# Altium integrated library Atmel Microcontroller 32-Bit ARM.IntLib: 116 symbols (part 4 of 10)
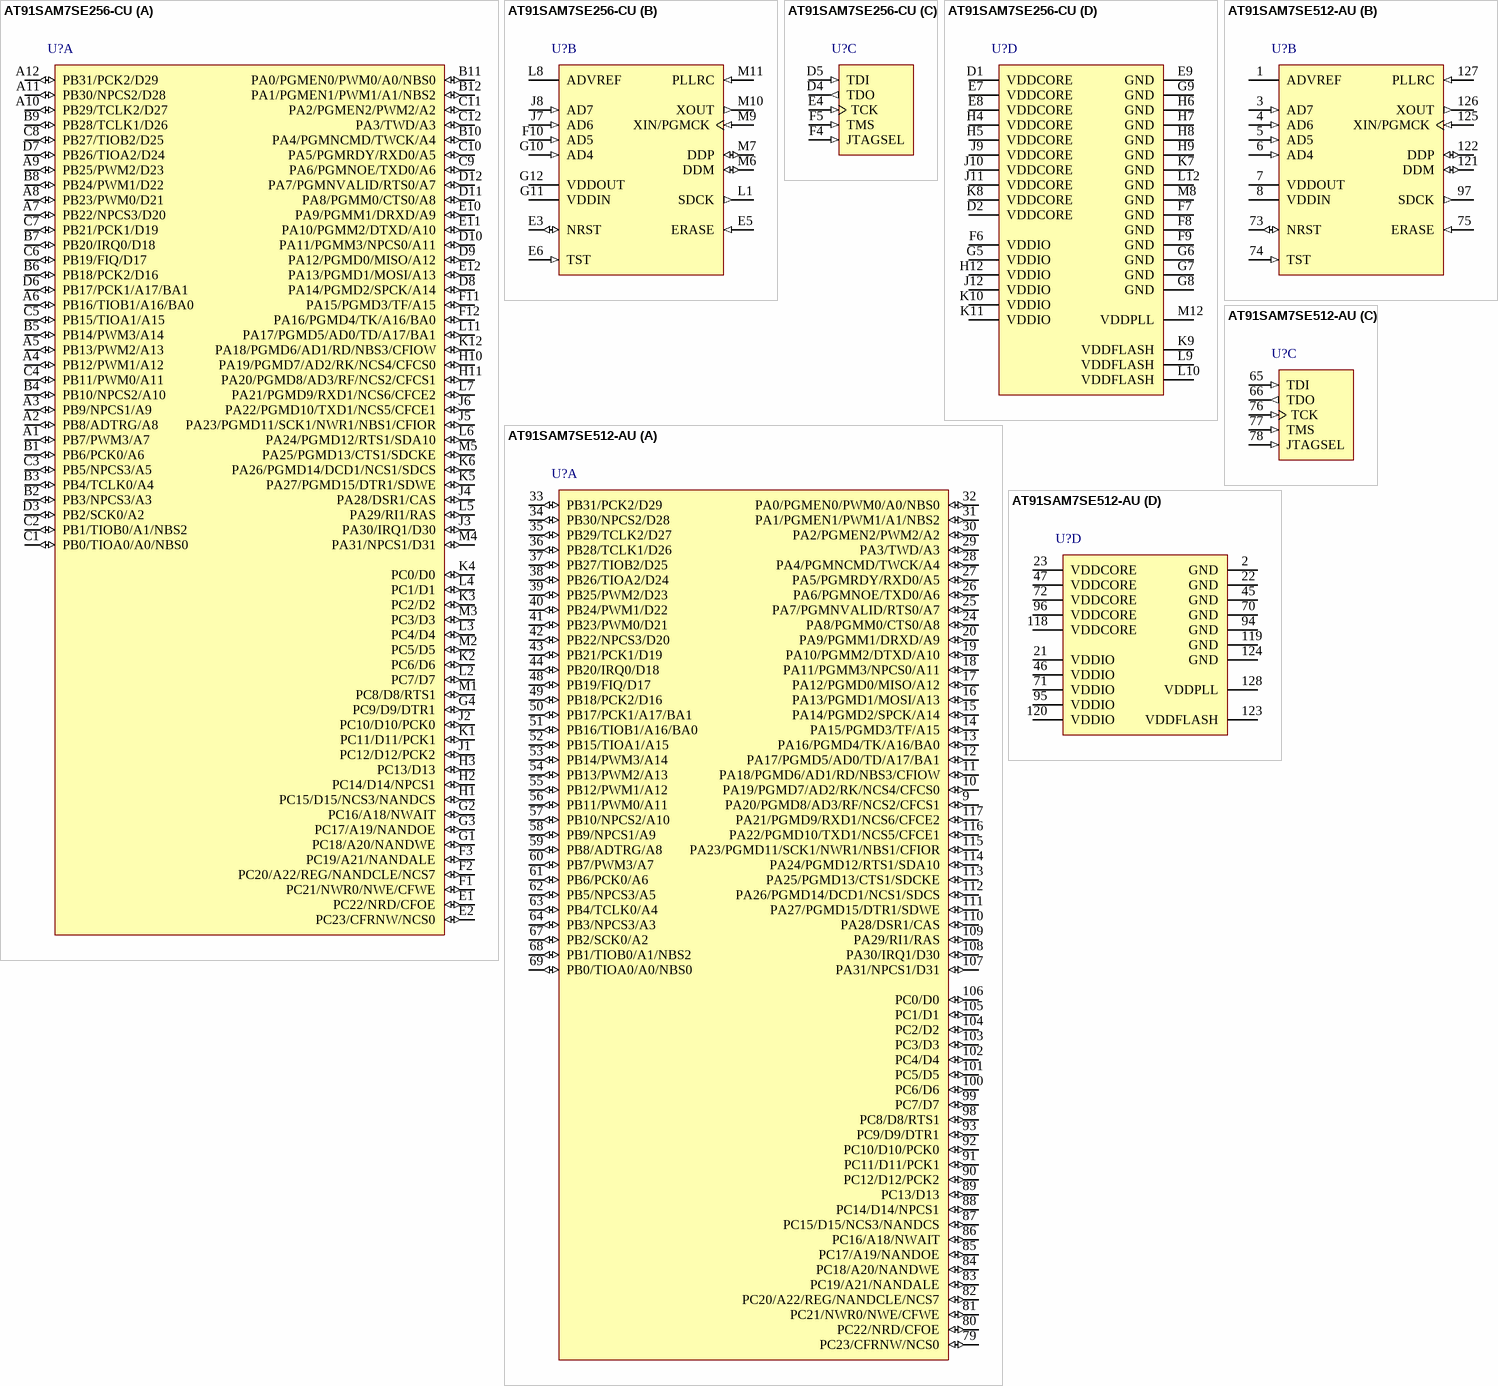
[diagram p55: symbols AT91SAM7SE256-CU to AT91SAM7SE512-AU]

## AT91SAM7SE512-AU
designator U?
AT91 ARM Thumb-based 32-bit Microcontroller, 512KB Flash, 32KB SRAM, EBI, 8-ch. 10-bit ADC, 128-pin LQFP, Industrial Grade (-40°C to 85°C), Pb-Free; Published: 20-Sep-2010; DatasheetVersion: revE, Dec-2009; PackageVersion: 2008; PackageReference: LQFP128; Publisher: Altium Limited; PackageDescription: 128-Pin Thin Quad Flat Pack Rectangular 0.5 mm Pitch; Supplier 1: Digi-Key; Supplier Part Number 1: AT91SAM7SE512-AU-ND; Supplier 2: Farnell; Supplier Part Number 2: 1455083; Supplier 3: Mouser; Supplier Part Number 3: 556-A91SAM7SE512AU; Code_JEDEC: MS-026; ComponentLink1Description: Manufacturer Link; ComponentLink1URL: http://www.atmel.com/products/AT91/default.asp?; ComponentLink2Description: AT91SAM7SE Series Datasheet; ComponentLink2URL: http://www.atmel.com/dyn/resources/prod_documents/doc6222.pdf; ComponentLink3Description: AT91SAM7SE Series Summary; ComponentLink3URL: http://www.atmel.com/dyn/resources/prod_documents/6222s.pdf; ComponentLink4Description: Atmel.com Home; ComponentLink4URL: http://www.atmel.com
footprint LQFP128_N (Thin QFP, 128-Leads, Body 20x14 mm, Pitch 0.5mm, IPC Medium Density)
footprint LQFP128_L (Thin QFP, 128-Leads, Body 20x14 mm, Pitch 0.5mm, IPC High Density)
footprint LQFP128_M (Thin QFP, 128-Leads, Body 20x14 mm, Pitch 0.5mm, IPC Low Density)
part A pins: 9 PA20/PGMD8/AD3/RF/NCS2/CFCS1 (io), 10 PA19/PGMD7/AD2/RK/NCS4/CFCS0 (io), 11 PA18/PGMD6/AD1/RD/NBS3/CFIOW (io), 12 PA17/PGMD5/AD0/TD/A17/BA1 (io), 13 PA16/PGMD4/TK/A16/BA0 (io), 14 PA15/PGMD3/TF/A15 (io), 15 PA14/PGMD2/SPCK/A14 (io), 16 PA13/PGMD1/MOSI/A13 (io), 17 PA12/PGMD0/MISO/A12 (io), 18 PA11/PGMM3/NPCS0/A11 (io), 19 PA10/PGMM2/DTXD/A10 (io), 20 PA9/PGMM1/DRXD/A9 (io), 24 PA8/PGMM0/CTS0/A8 (io), 25 PA7/PGMNVALID/RTS0/A7 (io), 26 PA6/PGMNOE/TXD0/A6 (io), 27 PA5/PGMRDY/RXD0/A5 (io), 28 PA4/PGMNCMD/TWCK/A4 (io), 29 PA3/TWD/A3 (io), 30 PA2/PGMEN2/PWM2/A2 (io), 31 PA1/PGMEN1/PWM1/A1/NBS2 (io), 32 PA0/PGMEN0/PWM0/A0/NBS0 (io), 33 PB31/PCK2/D29 (io), 34 PB30/NPCS2/D28 (io), 35 PB29/TCLK2/D27 (io), 36 PB28/TCLK1/D26 (io), 37 PB27/TIOB2/D25 (io), 38 PB26/TIOA2/D24 (io), 39 PB25/PWM2/D23 (io), 40 PB24/PWM1/D22 (io), 41 PB23/PWM0/D21 (io), 42 PB22/NPCS3/D20 (io), 43 PB21/PCK1/D19 (io), 44 PB20/IRQ0/D18 (io), 48 PB19/FIQ/D17 (io), 49 PB18/PCK2/D16 (io), 50 PB17/PCK1/A17/BA1 (io), 51 PB16/TIOB1/A16/BA0 (io), 52 PB15/TIOA1/A15 (io), 53 PB14/PWM3/A14 (io), 54 PB13/PWM2/A13 (io), 55 PB12/PWM1/A12 (io), 56 PB11/PWM0/A11 (io), 57 PB10/NPCS2/A10 (io), 58 PB9/NPCS1/A9 (io), 59 PB8/ADTRG/A8 (io), 60 PB7/PWM3/A7 (io), 61 PB6/PCK0/A6 (io), 62 PB5/NPCS3/A5 (io), 63 PB4/TCLK0/A4 (io), 64 PB3/NPCS3/A3 (io), 67 PB2/SCK0/A2 (io), 68 PB1/TIOB0/A1/NBS2 (io), 69 PB0/TIOA0/A0/NBS0 (io), 79 PC23/CFRNW/NCS0 (io), 80 PC22/NRD/CFOE (io), 81 PC21/NWR0/NWE/CFWE (io), 82 PC20/A22/REG/NANDCLE/NCS7 (io), 83 PC19/A21/NANDALE (io), 84 PC18/A20/NANDWE (io), 85 PC17/A19/NANDOE (io), 86 PC16/A18/NWAIT (io), 87 PC15/D15/NCS3/NANDCS (io), 88 PC14/D14/NPCS1 (io), 89 PC13/D13 (io), 90 PC12/D12/PCK2 (io), 91 PC11/D11/PCK1 (io), 92 PC10/D10/PCK0 (io), 93 PC9/D9/DTR1 (io), 98 PC8/D8/RTS1 (io), 99 PC7/D7 (io), 100 PC6/D6 (io), 101 PC5/D5 (io), 102 PC4/D4 (io), 103 PC3/D3 (io), 104 PC2/D2 (io), 105 PC1/D1 (io), 106 PC0/D0 (io), 107 PA31/NPCS1/D31 (io), 108 PA30/IRQ1/D30 (io), 109 PA29/RI1/RAS (io), 110 PA28/DSR1/CAS (io), 111 PA27/PGMD15/DTR1/SDWE (io), 112 PA26/PGMD14/DCD1/NCS1/SDCS (io), 113 PA25/PGMD13/CTS1/SDCKE (io), 114 PA24/PGMD12/RTS1/SDA10 (io), 115 PA23/PGMD11/SCK1/NWR1/NBS1/CFIOR (io), 116 PA22/PGMD10/TXD1/NCS5/CFCE1 (io), 117 PA21/PGMD9/RXD1/NCS6/CFCE2 (io)
part B pins: 1 ADVREF (power), 3 AD7 (in), 4 AD6 (in), 5 AD5 (in), 6 AD4 (in), 7 VDDOUT (power), 8 VDDIN (power), 73 NRST (io), 74 TST (in), 75 ERASE (in), 97 SDCK (out), 121 DDM (io), 122 DDP (io), 125 XIN/PGMCK (in), 126 XOUT (out), 127 PLLRC (in)
part C pins: 65 TDI (in), 66 TDO (out), 76 TCK (in), 77 TMS (in), 78 JTAGSEL (in)
part D pins: 2 GND (power), 21 VDDIO (power), 22 GND (power), 23 VDDCORE (power), 45 GND (power), 46 VDDIO (power), 47 VDDCORE (power), 70 GND (power), 71 VDDIO (power), 72 VDDCORE (power), 94 GND (power), 95 VDDIO (power), 96 VDDCORE (power), 118 VDDCORE (power), 119 GND (power), 120 VDDIO (power), 123 VDDFLASH (power), 124 GND (power), 128 VDDPLL (power)

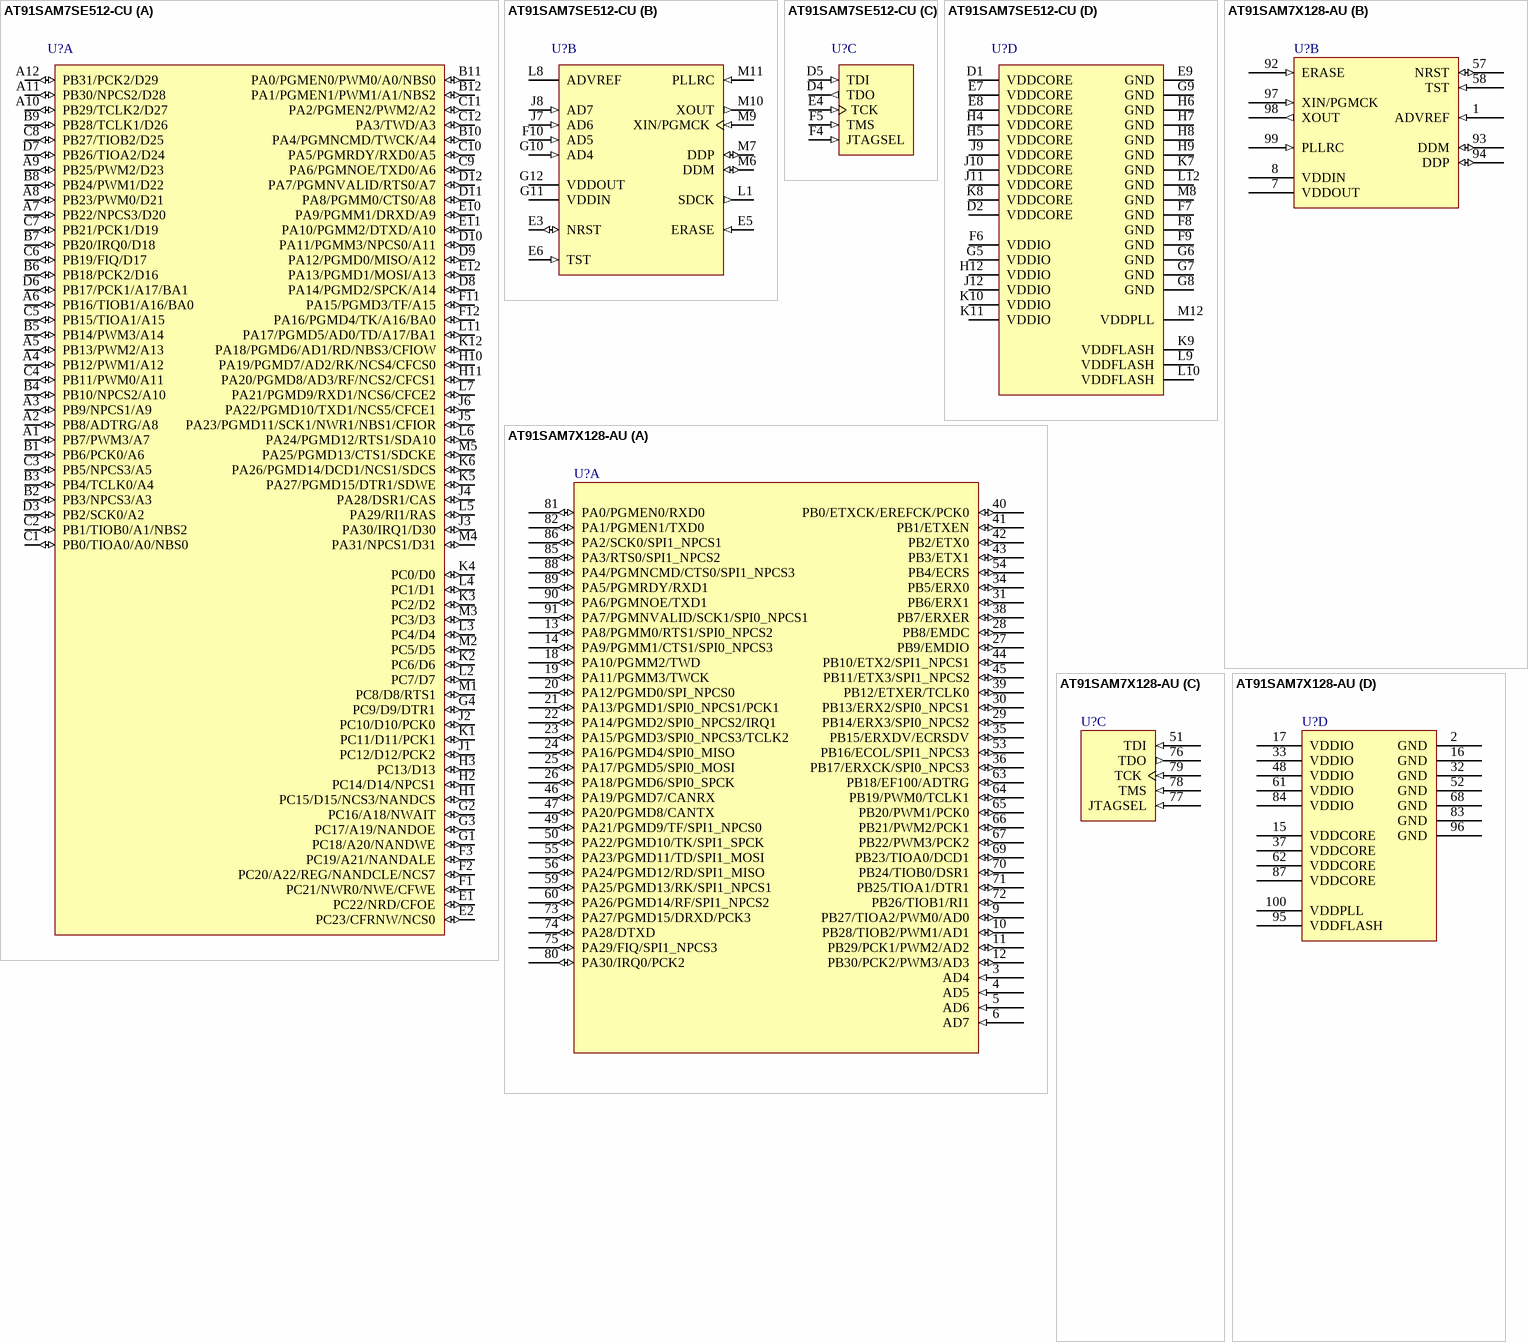
[diagram p17: symbols AT91SAM7SE512-CU to AT91SAM7X128-AU]

## AT91SAM7SE512-CU
designator U?
AT91 ARM Thumb-based 32-bit Microcontroller, 512KB Flash, 32KB SRAM, EBI, 8-ch. 10-bit ADC, 144-pin LFBGA, Industrial Grade (-40°C to 85°C), Pb-Free; Published: 20-Sep-2010; DatasheetVersion: revE, Dec-2009; PackageVersion: 2008; PackageReference: LFBGA144; Publisher: Altium Limited; PackageDescription: 144-Ball Low Profile Fine Pitch BGA, 10 x 10 x 1.4 mm Body, 0.8 mm Pitch; Supplier 1: Digi-Key; Supplier Part Number 1: AT91SAM7SE512-CU-ND; Supplier 2: Mouser; Supplier Part Number 2: 556-A91SAM7SE512-CU; Code_JEDEC: MS-026; ComponentLink1Description: Manufacturer Link; ComponentLink1URL: http://www.atmel.com/products/AT91/default.asp?; ComponentLink2Description: AT91SAM7SE Series Datasheet; ComponentLink2URL: http://www.atmel.com/dyn/resources/prod_documents/doc6222.pdf; ComponentLink3Description: AT91SAM7SE Series Summary; ComponentLink3URL: http://www.atmel.com/dyn/resources/prod_documents/6222s.pdf; ComponentLink4Description: Atmel.com Home; ComponentLink4URL: http://www.atmel.com
footprint LFBGA144 (BGA, 144-Leads, Body 10x10mm, Pitch 0.8mm)
part A pins: A1 PB7/PWM3/A7 (io), A2 PB8/ADTRG/A8 (io), A3 PB9/NPCS1/A9 (io), A4 PB12/PWM1/A12 (io), A5 PB13/PWM2/A13 (io), A6 PB16/TIOB1/A16/BA0 (io), A7 PB22/NPCS3/D20 (io), A8 PB23/PWM0/D21 (io), A9 PB25/PWM2/D23 (io), A10 PB29/TCLK2/D27 (io), A11 PB30/NPCS2/D28 (io), A12 PB31/PCK2/D29 (io), B1 PB6/PCK0/A6 (io), B2 PB3/NPCS3/A3 (io), B3 PB4/TCLK0/A4 (io), B4 PB10/NPCS2/A10 (io), B5 PB14/PWM3/A14 (io), B6 PB18/PCK2/D16 (io), B7 PB20/IRQ0/D18 (io), B8 PB24/PWM1/D22 (io), B9 PB28/TCLK1/D26 (io), B10 PA4/PGMNCMD/TWCK/A4 (io), B11 PA0/PGMEN0/PWM0/A0/NBS0 (io), B12 PA1/PGMEN1/PWM1/A1/NBS2 (io), C1 PB0/TIOA0/A0/NBS0 (io), C2 PB1/TIOB0/A1/NBS2 (io), C3 PB5/NPCS3/A5 (io), C4 PB11/PWM0/A11 (io), C5 PB15/TIOA1/A15 (io), C6 PB19/FIQ/D17 (io), C7 PB21/PCK1/D19 (io), C8 PB27/TIOB2/D25 (io), C9 PA6/PGMNOE/TXD0/A6 (io), C10 PA5/PGMRDY/RXD0/A5 (io), C11 PA2/PGMEN2/PWM2/A2 (io), C12 PA3/TWD/A3 (io), D3 PB2/SCK0/A2 (io), D6 PB17/PCK1/A17/BA1 (io), D7 PB26/TIOA2/D24 (io), D8 PA14/PGMD2/SPCK/A14 (io), D9 PA12/PGMD0/MISO/A12 (io), D10 PA11/PGMM3/NPCS0/A11 (io), D11 PA8/PGMM0/CTS0/A8 (io), D12 PA7/PGMNVALID/RTS0/A7 (io), E1 PC22/NRD/CFOE (io), E2 PC23/CFRNW/NCS0 (io), E10 PA9/PGMM1/DRXD/A9 (io), E11 PA10/PGMM2/DTXD/A10 (io), E12 PA13/PGMD1/MOSI/A13 (io), F1 PC21/NWR0/NWE/CFWE (io), F2 PC20/A22/REG/NANDCLE/NCS7 (io), F3 PC19/A21/NANDALE (io), F11 PA15/PGMD3/TF/A15 (io), F12 PA16/PGMD4/TK/A16/BA0 (io), G1 PC18/A20/NANDWE (io), G2 PC16/A18/NWAIT (io), G3 PC17/A19/NANDOE (io), G4 PC9/D9/DTR1 (io), H1 PC15/D15/NCS3/NANDCS (io), H2 PC14/D14/NPCS1 (io), H3 PC13/D13 (io), H10 PA19/PGMD7/AD2/RK/NCS4/CFCS0 (io), H11 PA20/PGMD8/AD3/RF/NCS2/CFCS1 (io), J1 PC12/D12/PCK2 (io), J2 PC10/D10/PCK0 (io), J3 PA30/IRQ1/D30 (io), J4 PA28/DSR1/CAS (io), J5 PA23/PGMD11/SCK1/NWR1/NBS1/CFIOR (io), J6 PA22/PGMD10/TXD1/NCS5/CFCE1 (io), K1 PC11/D11/PCK1 (io), K2 PC6/D6 (io), K3 PC2/D2 (io), K4 PC0/D0 (io), K5 PA27/PGMD15/DTR1/SDWE (io), K6 PA26/PGMD14/DCD1/NCS1/SDCS (io), K12 PA18/PGMD6/AD1/RD/NBS3/CFIOW (io), L2 PC7/D7 (io), L3 PC4/D4 (io), L4 PC1/D1 (io), L5 PA29/RI1/RAS (io), L6 PA24/PGMD12/RTS1/SDA10 (io), L7 PA21/PGMD9/RXD1/NCS6/CFCE2 (io), L11 PA17/PGMD5/AD0/TD/A17/BA1 (io), M1 PC8/D8/RTS1 (io), M2 PC5/D5 (io), M3 PC3/D3 (io), M4 PA31/NPCS1/D31 (io), M5 PA25/PGMD13/CTS1/SDCKE (io)
part B pins: E3 NRST (io), E5 ERASE (in), E6 TST (in), F10 AD5 (in), G10 AD4 (in), G11 VDDIN (power), G12 VDDOUT (power), J7 AD6 (in), J8 AD7 (in), L1 SDCK (out), L8 ADVREF (power), M6 DDM (io), M7 DDP (io), M9 XIN/PGMCK (in), M10 XOUT (out), M11 PLLRC (in)
part C pins: D4 TDO (out), D5 TDI (in), E4 TCK (in), F4 JTAGSEL (in), F5 TMS (in)
part D pins: D1 VDDCORE (power), D2 VDDCORE (power), E7 VDDCORE (power), E8 VDDCORE (power), E9 GND (power), F6 VDDIO (power), F7 GND (power), F8 GND (power), F9 GND (power), G5 VDDIO (power), G6 GND (power), G7 GND (power), G8 GND (power), G9 GND (power), H4 VDDCORE (power), H5 VDDCORE (power), H6 GND (power), H7 GND (power), H8 GND (power), H9 GND (power), H12 VDDIO (power), J9 VDDCORE (power), J10 VDDCORE (power), J11 VDDCORE (power), J12 VDDIO (power), K7 GND (power), K8 VDDCORE (power), K9 VDDFLASH (power), K10 VDDIO (power), K11 VDDIO (power), L9 VDDFLASH (power), L10 VDDFLASH (power), L12 GND (power), M8 GND (power), M12 VDDPLL (power)

## AT91SAM7X128-AU
designator U?
AT91 ARM Thumb-based 32-bit Microcontroller, 128KB Flash, 32KB SRAM, E-MAC, CAN, 100-Pin LQFP, Industrial Grade (-40°C to 85°C), Pb-Free; Published: 16-Oct-2006; DatasheetVersion: revH, Feb-2009; PackageVersion: Apr-2006; PackageReference: LQFP100; Publisher: Altium Limited; PackageDescription: 100-Pin Thin Quad Flat Pack 0.5 mm Pitch; Supplier 1: Digi-Key; Supplier Part Number 1: AT91SAM7X128-AU-ND; Supplier 2: Farnell; Supplier Part Number 2: 1288326; Supplier 3: Mouser; Supplier Part Number 3: 556-A91SAM7X128AU; Code_JEDEC: MS-026-BED; ComponentLink1Description: Manufacturer Link; ComponentLink1URL: http://www.atmel.com/products/AT91/default.asp?; ComponentLink2Description: AT91SAM7X Series Datasheet; ComponentLink2URL: http://www.atmel.com/dyn/resources/prod_documents/doc6120.pdf; ComponentLink3Description: AT91SAM7X Series Summary; ComponentLink3URL: http://www.atmel.com/dyn/resources/prod_documents/6120s.pdf; ComponentLink4Description: ARM7TDMI Reference Manual; ComponentLink4URL: http://www.atmel.com/dyn/resources/prod_documents/DDI0029G_7TDMI_R3_trm.pdf; ComponentLink5Description: Atmel.com Home; ComponentLink5URL: http://www.atmel.com
footprint LQFP100_N (Thin QFP, 100-Leads, Body 14x14mm, Pitch 0.5mm, IPC Medium Density)
footprint LQFP100_L (Thin QFP, 100-Leads, Body 14x14mm, Pitch 0.5mm, IPC High Density)
footprint LQFP100_M (Thin QFP, 100-Leads, Body 14x14mm, Pitch 0.5mm, IPC Low Density)
part A pins: 3 AD4 (in), 4 AD5 (in), 5 AD6 (in), 6 AD7 (in), 9 PB27/TIOA2/PWM0/AD0 (io), 10 PB28/TIOB2/PWM1/AD1 (io), 11 PB29/PCK1/PWM2/AD2 (io), 12 PB30/PCK2/PWM3/AD3 (io), 13 PA8/PGMM0/RTS1/SPI0_NPCS2 (io), 14 PA9/PGMM1/CTS1/SPI0_NPCS3 (io), 18 PA10/PGMM2/TWD (io), 19 PA11/PGMM3/TWCK (io), 20 PA12/PGMD0/SPI_NPCS0 (io), 21 PA13/PGMD1/SPI0_NPCS1/PCK1 (io), 22 PA14/PGMD2/SPI0_NPCS2/IRQ1 (io), 23 PA15/PGMD3/SPI0_NPCS3/TCLK2 (io), 24 PA16/PGMD4/SPI0_MISO (io), 25 PA17/PGMD5/SPI0_MOSI (io), 26 PA18/PGMD6/SPI0_SPCK (io), 27 PB9/EMDIO (io), 28 PB8/EMDC (io), 29 PB14/ERX3/SPI0_NPCS2 (io), 30 PB13/ERX2/SPI0_NPCS1 (io), 31 PB6/ERX1 (io), 34 PB5/ERX0 (io), 35 PB15/ERXDV/ECRSDV (io), 36 PB17/ERXCK/SPI0_NPCS3 (io), 38 PB7/ERXER (io), 39 PB12/ETXER/TCLK0 (io), 40 PB0/ETXCK/EREFCK/PCK0 (io), 41 PB1/ETXEN (io), 42 PB2/ETX0 (io), 43 PB3/ETX1 (io), 44 PB10/ETX2/SPI1_NPCS1 (io), 45 PB11/ETX3/SPI1_NPCS2 (io), 46 PA19/PGMD7/CANRX (io), 47 PA20/PGMD8/CANTX (io), 49 PA21/PGMD9/TF/SPI1_NPCS0 (io), 50 PA22/PGMD10/TK/SPI1_SPCK (io), 53 PB16/ECOL/SPI1_NPCS3 (io), 54 PB4/ECRS (io), 55 PA23/PGMD11/TD/SPI1_MOSI (io), 56 PA24/PGMD12/RD/SPI1_MISO (io), 59 PA25/PGMD13/RK/SPI1_NPCS1 (io), 60 PA26/PGMD14/RF/SPI1_NPCS2 (io), 63 PB18/EF100/ADTRG (io), 64 PB19/PWM0/TCLK1 (io), 65 PB20/PWM1/PCK0 (io), 66 PB21/PWM2/PCK1 (io), 67 PB22/PWM3/PCK2 (io), 69 PB23/TIOA0/DCD1 (io), 70 PB24/TIOB0/DSR1 (io), 71 PB25/TIOA1/DTR1 (io), 72 PB26/TIOB1/RI1 (io), 73 PA27/PGMD15/DRXD/PCK3 (io), 74 PA28/DTXD (io), 75 PA29/FIQ/SPI1_NPCS3 (io), 80 PA30/IRQ0/PCK2 (io), 81 PA0/PGMEN0/RXD0 (io), 82 PA1/PGMEN1/TXD0 (io), 85 PA3/RTS0/SPI1_NPCS2 (io), 86 PA2/SCK0/SPI1_NPCS1 (io), 88 PA4/PGMNCMD/CTS0/SPI1_NPCS3 (io), 89 PA5/PGMRDY/RXD1 (io), 90 PA6/PGMNOE/TXD1 (io), 91 PA7/PGMNVALID/SCK1/SPI0_NPCS1 (io)
part B pins: 1 ADVREF (in), 7 VDDOUT (power), 8 VDDIN (power), 57 NRST (io), 58 TST (in), 92 ERASE (in), 93 DDM (io), 94 DDP (io), 97 XIN/PGMCK (in), 98 XOUT (out), 99 PLLRC (in)
part C pins: 51 TDI (in), 76 TDO (out), 77 JTAGSEL (in), 78 TMS (in), 79 TCK (in)
part D pins: 2 GND (power), 15 VDDCORE (power), 16 GND (power), 17 VDDIO (power), 32 GND (power), 33 VDDIO (power), 37 VDDCORE (power), 48 VDDIO (power), 52 GND (power), 61 VDDIO (power), 62 VDDCORE (power), 68 GND (power), 83 GND (power), 84 VDDIO (power), 87 VDDCORE (power), 95 VDDFLASH (power), 96 GND (power), 100 VDDPLL (power)

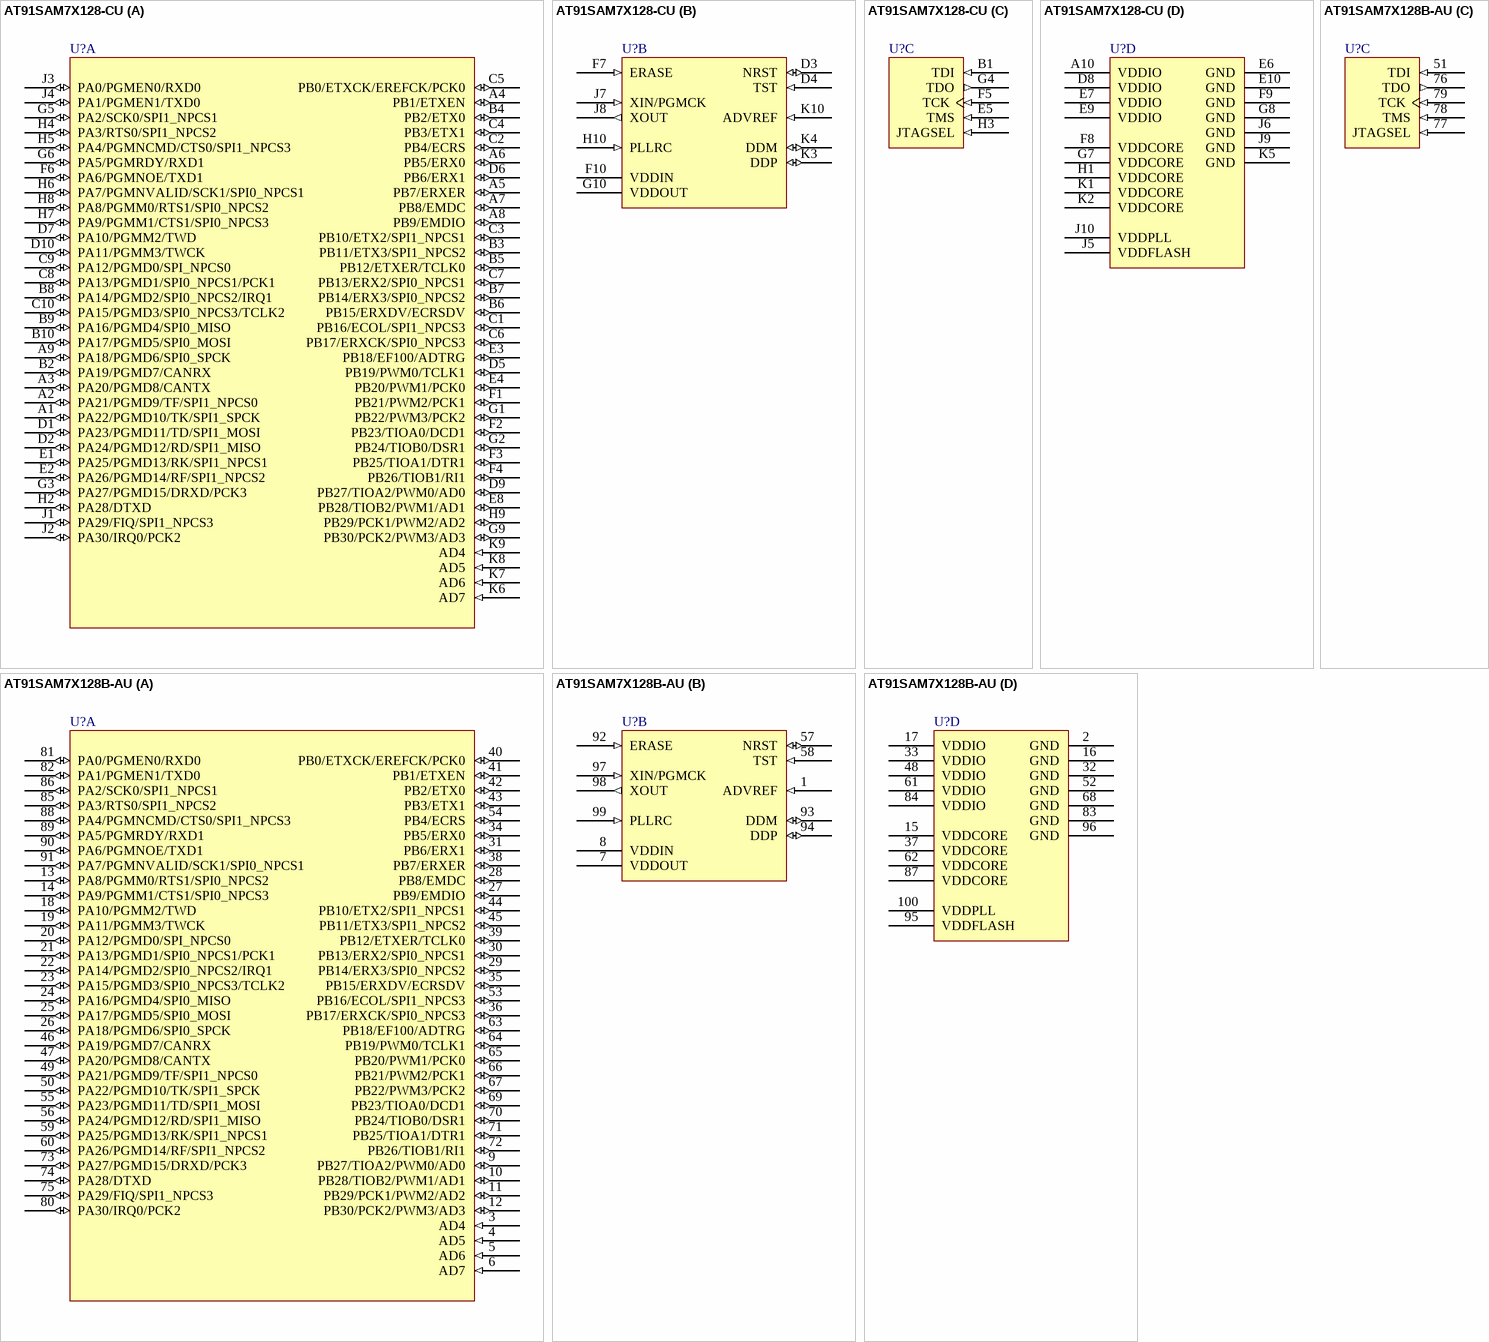
[diagram p18: symbols AT91SAM7X128-CU to AT91SAM7X128B-AU]

## AT91SAM7X128-CU
designator U?
AT91 ARM Thumb-based 32-bit Microcontroller, 128KB Flash, 32KB SRAM, E-MAC, CAN, 100-Pin TFBGA, Industrial Grade (-40°C to 85°C), Pb-Free; Published: 20-Sep-2010; DatasheetVersion: revH, Feb-2009; PackageVersion: 2004; PackageReference: TFBGA100; Publisher: Altium Limited; PackageDescription: 100-Ball Thin Fine Ball Grid Array, 9 x 9 x1.1 mm Body, 0.80 mm Pitch; Supplier 1: Digi-Key; Supplier Part Number 1: AT91SAM7X128-CU-ND; Supplier 2: Mouser; Supplier Part Number 2: 556-A91SAM7X128-CU; ComponentLink1Description: Manufacturer Link; ComponentLink1URL: http://www.atmel.com/products/AT91/default.asp?; ComponentLink2Description: AT91SAM7X Series Datasheet; ComponentLink2URL: http://www.atmel.com/dyn/resources/prod_documents/doc6120.pdf; ComponentLink3Description: AT91SAM7X Series Summary; ComponentLink3URL: http://www.atmel.com/dyn/resources/prod_documents/6120s.pdf; ComponentLink4Description: ARM7TDMI Reference Manual; ComponentLink4URL: http://www.atmel.com/dyn/resources/prod_documents/DDI0029G_7TDMI_R3_trm.pdf; ComponentLink5Description: Atmel.com Home; ComponentLink5URL: http://www.atmel.com
footprint TFBGA100 (BGA, 100-Leads, Body 9x9mm, Pitch 0.8mm)
part A pins: A1 PA22/PGMD10/TK/SPI1_SPCK (io), A2 PA21/PGMD9/TF/SPI1_NPCS0 (io), A3 PA20/PGMD8/CANTX (io), A4 PB1/ETXEN (io), A5 PB7/ERXER (io), A6 PB5/ERX0 (io), A7 PB8/EMDC (io), A8 PB9/EMDIO (io), A9 PA18/PGMD6/SPI0_SPCK (io), B2 PA19/PGMD7/CANRX (io), B3 PB11/ETX3/SPI1_NPCS2 (io), B4 PB2/ETX0 (io), B5 PB12/ETXER/TCLK0 (io), B6 PB15/ERXDV/ECRSDV (io), B7 PB14/ERX3/SPI0_NPCS2 (io), B8 PA14/PGMD2/SPI0_NPCS2/IRQ1 (io), B9 PA16/PGMD4/SPI0_MISO (io), B10 PA17/PGMD5/SPI0_MOSI (io), C1 PB16/ECOL/SPI1_NPCS3 (io), C2 PB4/ECRS (io), C3 PB10/ETX2/SPI1_NPCS1 (io), C4 PB3/ETX1 (io), C5 PB0/ETXCK/EREFCK/PCK0 (io), C6 PB17/ERXCK/SPI0_NPCS3 (io), C7 PB13/ERX2/SPI0_NPCS1 (io), C8 PA13/PGMD1/SPI0_NPCS1/PCK1 (io), C9 PA12/PGMD0/SPI_NPCS0 (io), C10 PA15/PGMD3/SPI0_NPCS3/TCLK2 (io), D1 PA23/PGMD11/TD/SPI1_MOSI (io), D2 PA24/PGMD12/RD/SPI1_MISO (io), D5 PB19/PWM0/TCLK1 (io), D6 PB6/ERX1 (io), D7 PA10/PGMM2/TWD (io), D9 PB27/TIOA2/PWM0/AD0 (io), D10 PA11/PGMM3/TWCK (io), E1 PA25/PGMD13/RK/SPI1_NPCS1 (io), E2 PA26/PGMD14/RF/SPI1_NPCS2 (io), E3 PB18/EF100/ADTRG (io), E4 PB20/PWM1/PCK0 (io), E8 PB28/TIOB2/PWM1/AD1 (io), F1 PB21/PWM2/PCK1 (io), F2 PB23/TIOA0/DCD1 (io), F3 PB25/TIOA1/DTR1 (io), F4 PB26/TIOB1/RI1 (io), F6 PA6/PGMNOE/TXD1 (io), G1 PB22/PWM3/PCK2 (io), G2 PB24/TIOB0/DSR1 (io), G3 PA27/PGMD15/DRXD/PCK3 (io), G5 PA2/SCK0/SPI1_NPCS1 (io), G6 PA5/PGMRDY/RXD1 (io), G9 PB30/PCK2/PWM3/AD3 (io), H2 PA28/DTXD (io), H4 PA3/RTS0/SPI1_NPCS2 (io), H5 PA4/PGMNCMD/CTS0/SPI1_NPCS3 (io), H6 PA7/PGMNVALID/SCK1/SPI0_NPCS1 (io), H7 PA9/PGMM1/CTS1/SPI0_NPCS3 (io), H8 PA8/PGMM0/RTS1/SPI0_NPCS2 (io), H9 PB29/PCK1/PWM2/AD2 (io), J1 PA29/FIQ/SPI1_NPCS3 (io), J2 PA30/IRQ0/PCK2 (io), J3 PA0/PGMEN0/RXD0 (io), J4 PA1/PGMEN1/TXD0 (io), K6 AD7 (in), K7 AD6 (in), K8 AD5 (in), K9 AD4 (in)
part B pins: D3 NRST (io), D4 TST (in), F7 ERASE (in), F10 VDDIN (power), G10 VDDOUT (power), H10 PLLRC (in), J7 XIN/PGMCK (in), J8 XOUT (out), K3 DDP (io), K4 DDM (io), K10 ADVREF (in)
part C pins: B1 TDI (in), E5 TMS (in), F5 TCK (in), G4 TDO (out), H3 JTAGSEL (in)
part D pins: A10 VDDIO (power), D8 VDDIO (power), E6 GND (power), E7 VDDIO (power), E9 VDDIO (power), E10 GND (power), F8 VDDCORE (power), F9 GND (power), G7 VDDCORE (power), G8 GND (power), H1 VDDCORE (power), J5 VDDFLASH (power), J6 GND (power), J9 GND (power), J10 VDDPLL (power), K1 VDDCORE (power), K2 VDDCORE (power), K5 GND (power)

## AT91SAM7X128B-AU
designator U?
AT91 ARM Thumb-based 32-bit Microcontroller, 128KB Flash, 32KB SRAM, E-MAC, CAN, 100-Pin LQFP, Industrial Grade (-40°C to 85°C), Pb-Free; Published: 20-Sep-2010; DatasheetVersion: revH, Feb-2009; PackageVersion: Apr-2006; PackageReference: LQFP100; Publisher: Altium Limited; PackageDescription: 100-Pin Thin Quad Flat Pack 0.5 mm Pitch; Supplier 1: Digi-Key; Supplier Part Number 1: AT91SAM7X128B-AU-ND; Supplier 2: Farnell; Supplier Part Number 2: 1748502; Supplier 3: Mouser; Supplier Part Number 3: 556-AT91SAM7X128B-AU; Code_JEDEC: MS-026-BED; ComponentLink1Description: Manufacturer Link; ComponentLink1URL: http://www.atmel.com/products/AT91/default.asp?; ComponentLink2Description: AT91SAM7X Series Datasheet; ComponentLink2URL: http://www.atmel.com/dyn/resources/prod_documents/doc6120.pdf; ComponentLink3Description: AT91SAM7X Series Summary; ComponentLink3URL: http://www.atmel.com/dyn/resources/prod_documents/6120s.pdf; ComponentLink4Description: ARM7TDMI Reference Manual; ComponentLink4URL: http://www.atmel.com/dyn/resources/prod_documents/DDI0029G_7TDMI_R3_trm.pdf; ComponentLink5Description: Atmel.com Home; ComponentLink5URL: http://www.atmel.com
footprint LQFP100_N (Thin QFP, 100-Leads, Body 14x14mm, Pitch 0.5mm, IPC Medium Density)
footprint LQFP100_L (Thin QFP, 100-Leads, Body 14x14mm, Pitch 0.5mm, IPC High Density)
footprint LQFP100_M (Thin QFP, 100-Leads, Body 14x14mm, Pitch 0.5mm, IPC Low Density)
part A pins: 3 AD4 (in), 4 AD5 (in), 5 AD6 (in), 6 AD7 (in), 9 PB27/TIOA2/PWM0/AD0 (io), 10 PB28/TIOB2/PWM1/AD1 (io), 11 PB29/PCK1/PWM2/AD2 (io), 12 PB30/PCK2/PWM3/AD3 (io), 13 PA8/PGMM0/RTS1/SPI0_NPCS2 (io), 14 PA9/PGMM1/CTS1/SPI0_NPCS3 (io), 18 PA10/PGMM2/TWD (io), 19 PA11/PGMM3/TWCK (io), 20 PA12/PGMD0/SPI_NPCS0 (io), 21 PA13/PGMD1/SPI0_NPCS1/PCK1 (io), 22 PA14/PGMD2/SPI0_NPCS2/IRQ1 (io), 23 PA15/PGMD3/SPI0_NPCS3/TCLK2 (io), 24 PA16/PGMD4/SPI0_MISO (io), 25 PA17/PGMD5/SPI0_MOSI (io), 26 PA18/PGMD6/SPI0_SPCK (io), 27 PB9/EMDIO (io), 28 PB8/EMDC (io), 29 PB14/ERX3/SPI0_NPCS2 (io), 30 PB13/ERX2/SPI0_NPCS1 (io), 31 PB6/ERX1 (io), 34 PB5/ERX0 (io), 35 PB15/ERXDV/ECRSDV (io), 36 PB17/ERXCK/SPI0_NPCS3 (io), 38 PB7/ERXER (io), 39 PB12/ETXER/TCLK0 (io), 40 PB0/ETXCK/EREFCK/PCK0 (io), 41 PB1/ETXEN (io), 42 PB2/ETX0 (io), 43 PB3/ETX1 (io), 44 PB10/ETX2/SPI1_NPCS1 (io), 45 PB11/ETX3/SPI1_NPCS2 (io), 46 PA19/PGMD7/CANRX (io), 47 PA20/PGMD8/CANTX (io), 49 PA21/PGMD9/TF/SPI1_NPCS0 (io), 50 PA22/PGMD10/TK/SPI1_SPCK (io), 53 PB16/ECOL/SPI1_NPCS3 (io), 54 PB4/ECRS (io), 55 PA23/PGMD11/TD/SPI1_MOSI (io), 56 PA24/PGMD12/RD/SPI1_MISO (io), 59 PA25/PGMD13/RK/SPI1_NPCS1 (io), 60 PA26/PGMD14/RF/SPI1_NPCS2 (io), 63 PB18/EF100/ADTRG (io), 64 PB19/PWM0/TCLK1 (io), 65 PB20/PWM1/PCK0 (io), 66 PB21/PWM2/PCK1 (io), 67 PB22/PWM3/PCK2 (io), 69 PB23/TIOA0/DCD1 (io), 70 PB24/TIOB0/DSR1 (io), 71 PB25/TIOA1/DTR1 (io), 72 PB26/TIOB1/RI1 (io), 73 PA27/PGMD15/DRXD/PCK3 (io), 74 PA28/DTXD (io), 75 PA29/FIQ/SPI1_NPCS3 (io), 80 PA30/IRQ0/PCK2 (io), 81 PA0/PGMEN0/RXD0 (io), 82 PA1/PGMEN1/TXD0 (io), 85 PA3/RTS0/SPI1_NPCS2 (io), 86 PA2/SCK0/SPI1_NPCS1 (io), 88 PA4/PGMNCMD/CTS0/SPI1_NPCS3 (io), 89 PA5/PGMRDY/RXD1 (io), 90 PA6/PGMNOE/TXD1 (io), 91 PA7/PGMNVALID/SCK1/SPI0_NPCS1 (io)
part B pins: 1 ADVREF (in), 7 VDDOUT (power), 8 VDDIN (power), 57 NRST (io), 58 TST (in), 92 ERASE (in), 93 DDM (io), 94 DDP (io), 97 XIN/PGMCK (in), 98 XOUT (out), 99 PLLRC (in)
part C pins: 51 TDI (in), 76 TDO (out), 77 JTAGSEL (in), 78 TMS (in), 79 TCK (in)
part D pins: 2 GND (power), 15 VDDCORE (power), 16 GND (power), 17 VDDIO (power), 32 GND (power), 33 VDDIO (power), 37 VDDCORE (power), 48 VDDIO (power), 52 GND (power), 61 VDDIO (power), 62 VDDCORE (power), 68 GND (power), 83 GND (power), 84 VDDIO (power), 87 VDDCORE (power), 95 VDDFLASH (power), 96 GND (power), 100 VDDPLL (power)

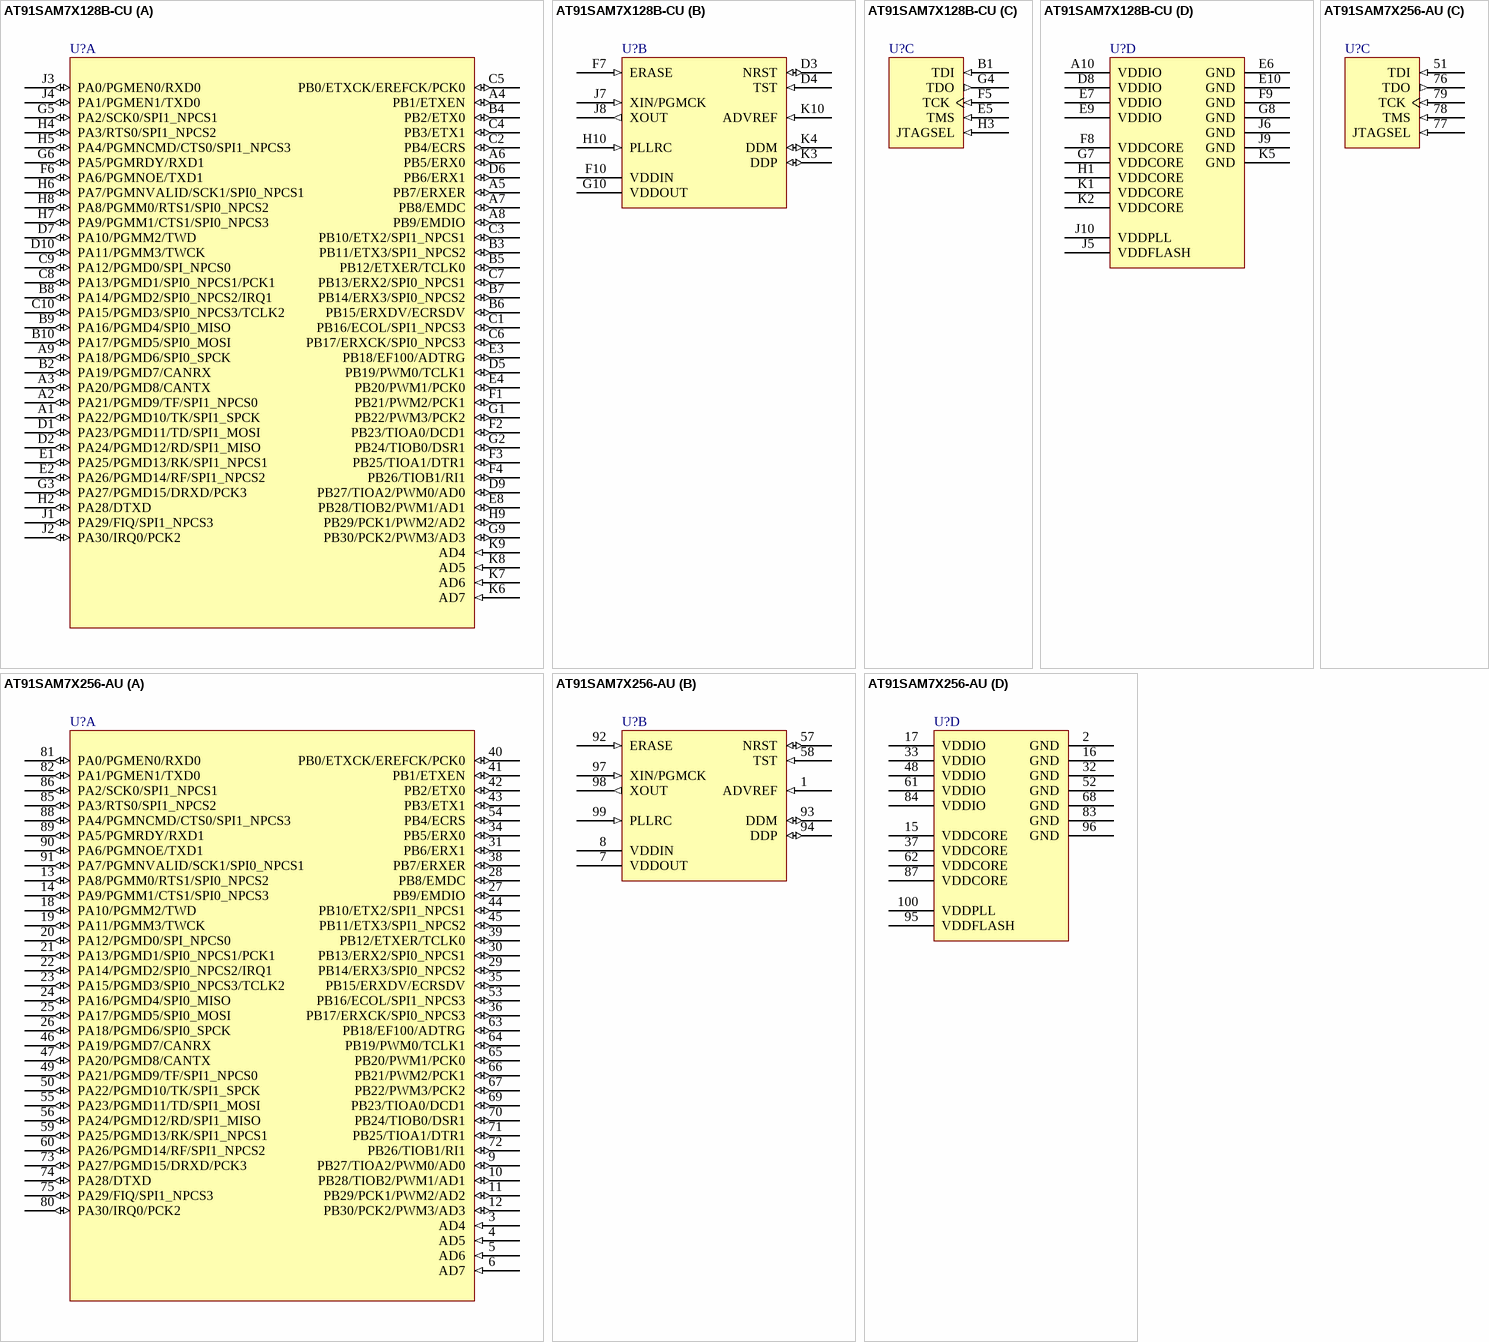
[diagram p19: symbols AT91SAM7X128B-CU to AT91SAM7X256-AU]

## AT91SAM7X128B-CU
designator U?
AT91 ARM Thumb-based 32-bit Microcontroller, 128KB Flash, 32KB SRAM, E-MAC, CAN, 100-Pin TFBGA, Industrial Grade (-40°C to 85°C), Pb-Free; Published: 20-Sep-2010; DatasheetVersion: revH, Feb-2009; PackageVersion: 2004; PackageReference: TFBGA100; Publisher: Altium Limited; PackageDescription: 100-Ball Thin Fine Ball Grid Array, 9 x 9 x1.1 mm Body, 0.80 mm Pitch; Supplier 1: Digi-Key; Supplier Part Number 1: AT91SAM7X128B-CU-ND; Supplier 2: Mouser; Supplier Part Number 2: 556-AT91SAM7X128B-CU; ComponentLink1Description: Manufacturer Link; ComponentLink1URL: http://www.atmel.com/products/AT91/default.asp?; ComponentLink2Description: AT91SAM7X Series Datasheet; ComponentLink2URL: http://www.atmel.com/dyn/resources/prod_documents/doc6120.pdf; ComponentLink3Description: AT91SAM7X Series Summary; ComponentLink3URL: http://www.atmel.com/dyn/resources/prod_documents/6120s.pdf; ComponentLink4Description: ARM7TDMI Reference Manual; ComponentLink4URL: http://www.atmel.com/dyn/resources/prod_documents/DDI0029G_7TDMI_R3_trm.pdf; ComponentLink5Description: Atmel.com Home; ComponentLink5URL: http://www.atmel.com
footprint TFBGA100 (BGA, 100-Leads, Body 9x9mm, Pitch 0.8mm)
part A pins: A1 PA22/PGMD10/TK/SPI1_SPCK (io), A2 PA21/PGMD9/TF/SPI1_NPCS0 (io), A3 PA20/PGMD8/CANTX (io), A4 PB1/ETXEN (io), A5 PB7/ERXER (io), A6 PB5/ERX0 (io), A7 PB8/EMDC (io), A8 PB9/EMDIO (io), A9 PA18/PGMD6/SPI0_SPCK (io), B2 PA19/PGMD7/CANRX (io), B3 PB11/ETX3/SPI1_NPCS2 (io), B4 PB2/ETX0 (io), B5 PB12/ETXER/TCLK0 (io), B6 PB15/ERXDV/ECRSDV (io), B7 PB14/ERX3/SPI0_NPCS2 (io), B8 PA14/PGMD2/SPI0_NPCS2/IRQ1 (io), B9 PA16/PGMD4/SPI0_MISO (io), B10 PA17/PGMD5/SPI0_MOSI (io), C1 PB16/ECOL/SPI1_NPCS3 (io), C2 PB4/ECRS (io), C3 PB10/ETX2/SPI1_NPCS1 (io), C4 PB3/ETX1 (io), C5 PB0/ETXCK/EREFCK/PCK0 (io), C6 PB17/ERXCK/SPI0_NPCS3 (io), C7 PB13/ERX2/SPI0_NPCS1 (io), C8 PA13/PGMD1/SPI0_NPCS1/PCK1 (io), C9 PA12/PGMD0/SPI_NPCS0 (io), C10 PA15/PGMD3/SPI0_NPCS3/TCLK2 (io), D1 PA23/PGMD11/TD/SPI1_MOSI (io), D2 PA24/PGMD12/RD/SPI1_MISO (io), D5 PB19/PWM0/TCLK1 (io), D6 PB6/ERX1 (io), D7 PA10/PGMM2/TWD (io), D9 PB27/TIOA2/PWM0/AD0 (io), D10 PA11/PGMM3/TWCK (io), E1 PA25/PGMD13/RK/SPI1_NPCS1 (io), E2 PA26/PGMD14/RF/SPI1_NPCS2 (io), E3 PB18/EF100/ADTRG (io), E4 PB20/PWM1/PCK0 (io), E8 PB28/TIOB2/PWM1/AD1 (io), F1 PB21/PWM2/PCK1 (io), F2 PB23/TIOA0/DCD1 (io), F3 PB25/TIOA1/DTR1 (io), F4 PB26/TIOB1/RI1 (io), F6 PA6/PGMNOE/TXD1 (io), G1 PB22/PWM3/PCK2 (io), G2 PB24/TIOB0/DSR1 (io), G3 PA27/PGMD15/DRXD/PCK3 (io), G5 PA2/SCK0/SPI1_NPCS1 (io), G6 PA5/PGMRDY/RXD1 (io), G9 PB30/PCK2/PWM3/AD3 (io), H2 PA28/DTXD (io), H4 PA3/RTS0/SPI1_NPCS2 (io), H5 PA4/PGMNCMD/CTS0/SPI1_NPCS3 (io), H6 PA7/PGMNVALID/SCK1/SPI0_NPCS1 (io), H7 PA9/PGMM1/CTS1/SPI0_NPCS3 (io), H8 PA8/PGMM0/RTS1/SPI0_NPCS2 (io), H9 PB29/PCK1/PWM2/AD2 (io), J1 PA29/FIQ/SPI1_NPCS3 (io), J2 PA30/IRQ0/PCK2 (io), J3 PA0/PGMEN0/RXD0 (io), J4 PA1/PGMEN1/TXD0 (io), K6 AD7 (in), K7 AD6 (in), K8 AD5 (in), K9 AD4 (in)
part B pins: D3 NRST (io), D4 TST (in), F7 ERASE (in), F10 VDDIN (power), G10 VDDOUT (power), H10 PLLRC (in), J7 XIN/PGMCK (in), J8 XOUT (out), K3 DDP (io), K4 DDM (io), K10 ADVREF (in)
part C pins: B1 TDI (in), E5 TMS (in), F5 TCK (in), G4 TDO (out), H3 JTAGSEL (in)
part D pins: A10 VDDIO (power), D8 VDDIO (power), E6 GND (power), E7 VDDIO (power), E9 VDDIO (power), E10 GND (power), F8 VDDCORE (power), F9 GND (power), G7 VDDCORE (power), G8 GND (power), H1 VDDCORE (power), J5 VDDFLASH (power), J6 GND (power), J9 GND (power), J10 VDDPLL (power), K1 VDDCORE (power), K2 VDDCORE (power), K5 GND (power)

## AT91SAM7X256-AU
designator U?
AT91 ARM Thumb-based 32-bit Microcontroller, 256KB Flash, 64KB SRAM, E-MAC, CAN, 100-Pin LQFP, Industrial Grade (-40°C to 85°C), Pb-Free; Published: 16-Oct-2006; DatasheetVersion: revH, Feb-2009; PackageVersion: Apr-2006; PackageReference: LQFP100; Publisher: Altium Limited; PackageDescription: 100-Pin Thin Quad Flat Pack 0.5 mm Pitch; Supplier 1: Digi-Key; Supplier Part Number 1: AT91SAM7X256-AU-ND; Supplier 2: Farnell; Supplier Part Number 2: 1288327; Supplier 3: Mouser; Supplier Part Number 3: 556-A91SAM7X256AU; Code_JEDEC: MS-026-BED; ComponentLink1Description: Manufacturer Link; ComponentLink1URL: http://www.atmel.com/products/AT91/default.asp?; ComponentLink2Description: AT91SAM7X Series Datasheet; ComponentLink2URL: http://www.atmel.com/dyn/resources/prod_documents/doc6120.pdf; ComponentLink3Description: AT91SAM7X Series Summary; ComponentLink3URL: http://www.atmel.com/dyn/resources/prod_documents/6120s.pdf; ComponentLink4Description: ARM7TDMI Reference Manual; ComponentLink4URL: http://www.atmel.com/dyn/resources/prod_documents/DDI0029G_7TDMI_R3_trm.pdf; ComponentLink5Description: Atmel.com Home; ComponentLink5URL: http://www.atmel.com
footprint LQFP100_N (Thin QFP, 100-Leads, Body 14x14mm, Pitch 0.5mm, IPC Medium Density)
footprint LQFP100_L (Thin QFP, 100-Leads, Body 14x14mm, Pitch 0.5mm, IPC High Density)
footprint LQFP100_M (Thin QFP, 100-Leads, Body 14x14mm, Pitch 0.5mm, IPC Low Density)
part A pins: 3 AD4 (in), 4 AD5 (in), 5 AD6 (in), 6 AD7 (in), 9 PB27/TIOA2/PWM0/AD0 (io), 10 PB28/TIOB2/PWM1/AD1 (io), 11 PB29/PCK1/PWM2/AD2 (io), 12 PB30/PCK2/PWM3/AD3 (io), 13 PA8/PGMM0/RTS1/SPI0_NPCS2 (io), 14 PA9/PGMM1/CTS1/SPI0_NPCS3 (io), 18 PA10/PGMM2/TWD (io), 19 PA11/PGMM3/TWCK (io), 20 PA12/PGMD0/SPI_NPCS0 (io), 21 PA13/PGMD1/SPI0_NPCS1/PCK1 (io), 22 PA14/PGMD2/SPI0_NPCS2/IRQ1 (io), 23 PA15/PGMD3/SPI0_NPCS3/TCLK2 (io), 24 PA16/PGMD4/SPI0_MISO (io), 25 PA17/PGMD5/SPI0_MOSI (io), 26 PA18/PGMD6/SPI0_SPCK (io), 27 PB9/EMDIO (io), 28 PB8/EMDC (io), 29 PB14/ERX3/SPI0_NPCS2 (io), 30 PB13/ERX2/SPI0_NPCS1 (io), 31 PB6/ERX1 (io), 34 PB5/ERX0 (io), 35 PB15/ERXDV/ECRSDV (io), 36 PB17/ERXCK/SPI0_NPCS3 (io), 38 PB7/ERXER (io), 39 PB12/ETXER/TCLK0 (io), 40 PB0/ETXCK/EREFCK/PCK0 (io), 41 PB1/ETXEN (io), 42 PB2/ETX0 (io), 43 PB3/ETX1 (io), 44 PB10/ETX2/SPI1_NPCS1 (io), 45 PB11/ETX3/SPI1_NPCS2 (io), 46 PA19/PGMD7/CANRX (io), 47 PA20/PGMD8/CANTX (io), 49 PA21/PGMD9/TF/SPI1_NPCS0 (io), 50 PA22/PGMD10/TK/SPI1_SPCK (io), 53 PB16/ECOL/SPI1_NPCS3 (io), 54 PB4/ECRS (io), 55 PA23/PGMD11/TD/SPI1_MOSI (io), 56 PA24/PGMD12/RD/SPI1_MISO (io), 59 PA25/PGMD13/RK/SPI1_NPCS1 (io), 60 PA26/PGMD14/RF/SPI1_NPCS2 (io), 63 PB18/EF100/ADTRG (io), 64 PB19/PWM0/TCLK1 (io), 65 PB20/PWM1/PCK0 (io), 66 PB21/PWM2/PCK1 (io), 67 PB22/PWM3/PCK2 (io), 69 PB23/TIOA0/DCD1 (io), 70 PB24/TIOB0/DSR1 (io), 71 PB25/TIOA1/DTR1 (io), 72 PB26/TIOB1/RI1 (io), 73 PA27/PGMD15/DRXD/PCK3 (io), 74 PA28/DTXD (io), 75 PA29/FIQ/SPI1_NPCS3 (io), 80 PA30/IRQ0/PCK2 (io), 81 PA0/PGMEN0/RXD0 (io), 82 PA1/PGMEN1/TXD0 (io), 85 PA3/RTS0/SPI1_NPCS2 (io), 86 PA2/SCK0/SPI1_NPCS1 (io), 88 PA4/PGMNCMD/CTS0/SPI1_NPCS3 (io), 89 PA5/PGMRDY/RXD1 (io), 90 PA6/PGMNOE/TXD1 (io), 91 PA7/PGMNVALID/SCK1/SPI0_NPCS1 (io)
part B pins: 1 ADVREF (in), 7 VDDOUT (power), 8 VDDIN (power), 57 NRST (io), 58 TST (in), 92 ERASE (in), 93 DDM (io), 94 DDP (io), 97 XIN/PGMCK (in), 98 XOUT (out), 99 PLLRC (in)
part C pins: 51 TDI (in), 76 TDO (out), 77 JTAGSEL (in), 78 TMS (in), 79 TCK (in)
part D pins: 2 GND (power), 15 VDDCORE (power), 16 GND (power), 17 VDDIO (power), 32 GND (power), 33 VDDIO (power), 37 VDDCORE (power), 48 VDDIO (power), 52 GND (power), 61 VDDIO (power), 62 VDDCORE (power), 68 GND (power), 83 GND (power), 84 VDDIO (power), 87 VDDCORE (power), 95 VDDFLASH (power), 96 GND (power), 100 VDDPLL (power)

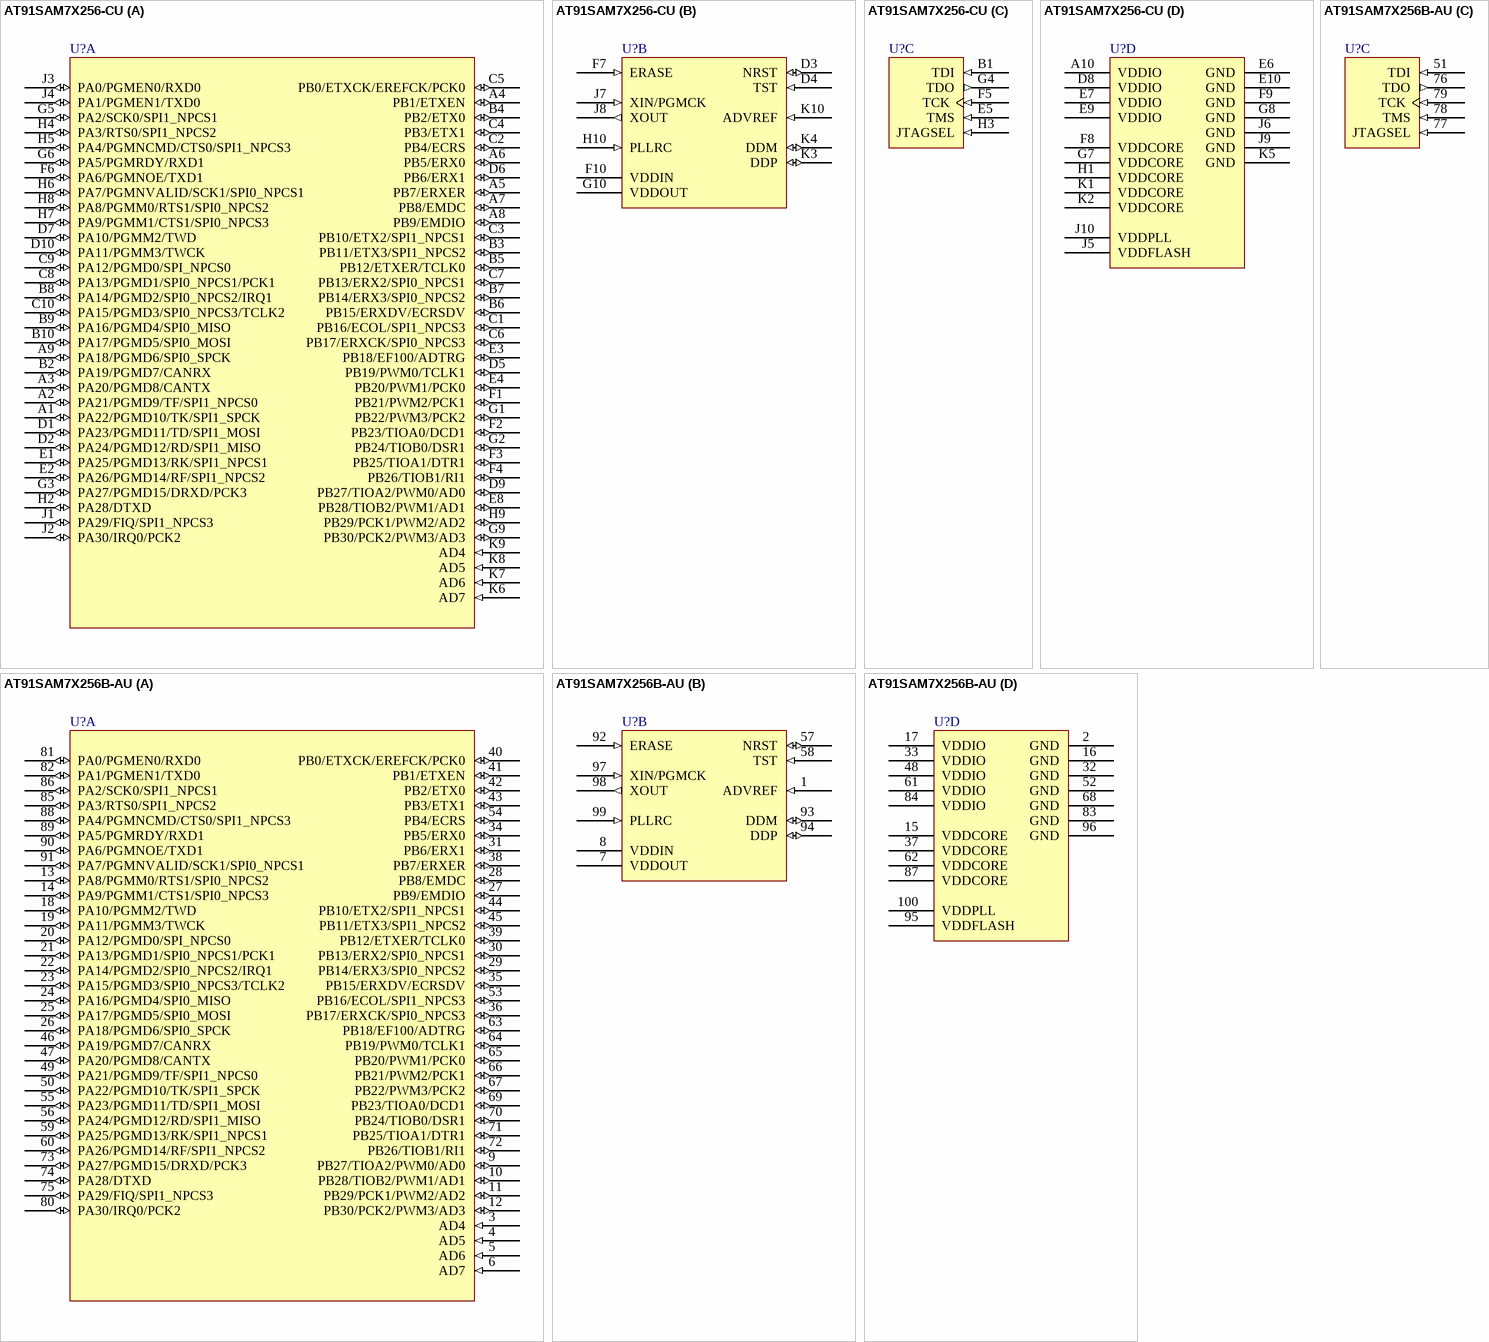
[diagram p20: symbols AT91SAM7X256-CU to AT91SAM7X256B-AU]

## AT91SAM7X256-CU
designator U?
AT91 ARM Thumb-based 32-bit Microcontroller, 256KB Flash, 64KB SRAM, E-MAC, CAN, 100-Pin TFBGA, Industrial Grade (-40°C to 85°C), Pb-Free; Published: 20-Sep-2010; DatasheetVersion: revH, Feb-2009; PackageVersion: 2004; PackageReference: TFBGA100; Publisher: Altium Limited; PackageDescription: 100-Ball Thin Fine Ball Grid Array, 9 x 9 x1.1 mm Body, 0.80 mm Pitch; Supplier 1: Digi-Key; Supplier Part Number 1: AT91SAM7X256-CU-ND; Supplier 2: Mouser; Supplier Part Number 2: 556-A91SAM7X256CU; ComponentLink1Description: Manufacturer Link; ComponentLink1URL: http://www.atmel.com/products/AT91/default.asp?; ComponentLink2Description: AT91SAM7X Series Datasheet; ComponentLink2URL: http://www.atmel.com/dyn/resources/prod_documents/doc6120.pdf; ComponentLink3Description: AT91SAM7X Series Summary; ComponentLink3URL: http://www.atmel.com/dyn/resources/prod_documents/6120s.pdf; ComponentLink4Description: ARM7TDMI Reference Manual; ComponentLink4URL: http://www.atmel.com/dyn/resources/prod_documents/DDI0029G_7TDMI_R3_trm.pdf; ComponentLink5Description: Atmel.com Home; ComponentLink5URL: http://www.atmel.com
footprint TFBGA100 (BGA, 100-Leads, Body 9x9mm, Pitch 0.8mm)
part A pins: A1 PA22/PGMD10/TK/SPI1_SPCK (io), A2 PA21/PGMD9/TF/SPI1_NPCS0 (io), A3 PA20/PGMD8/CANTX (io), A4 PB1/ETXEN (io), A5 PB7/ERXER (io), A6 PB5/ERX0 (io), A7 PB8/EMDC (io), A8 PB9/EMDIO (io), A9 PA18/PGMD6/SPI0_SPCK (io), B2 PA19/PGMD7/CANRX (io), B3 PB11/ETX3/SPI1_NPCS2 (io), B4 PB2/ETX0 (io), B5 PB12/ETXER/TCLK0 (io), B6 PB15/ERXDV/ECRSDV (io), B7 PB14/ERX3/SPI0_NPCS2 (io), B8 PA14/PGMD2/SPI0_NPCS2/IRQ1 (io), B9 PA16/PGMD4/SPI0_MISO (io), B10 PA17/PGMD5/SPI0_MOSI (io), C1 PB16/ECOL/SPI1_NPCS3 (io), C2 PB4/ECRS (io), C3 PB10/ETX2/SPI1_NPCS1 (io), C4 PB3/ETX1 (io), C5 PB0/ETXCK/EREFCK/PCK0 (io), C6 PB17/ERXCK/SPI0_NPCS3 (io), C7 PB13/ERX2/SPI0_NPCS1 (io), C8 PA13/PGMD1/SPI0_NPCS1/PCK1 (io), C9 PA12/PGMD0/SPI_NPCS0 (io), C10 PA15/PGMD3/SPI0_NPCS3/TCLK2 (io), D1 PA23/PGMD11/TD/SPI1_MOSI (io), D2 PA24/PGMD12/RD/SPI1_MISO (io), D5 PB19/PWM0/TCLK1 (io), D6 PB6/ERX1 (io), D7 PA10/PGMM2/TWD (io), D9 PB27/TIOA2/PWM0/AD0 (io), D10 PA11/PGMM3/TWCK (io), E1 PA25/PGMD13/RK/SPI1_NPCS1 (io), E2 PA26/PGMD14/RF/SPI1_NPCS2 (io), E3 PB18/EF100/ADTRG (io), E4 PB20/PWM1/PCK0 (io), E8 PB28/TIOB2/PWM1/AD1 (io), F1 PB21/PWM2/PCK1 (io), F2 PB23/TIOA0/DCD1 (io), F3 PB25/TIOA1/DTR1 (io), F4 PB26/TIOB1/RI1 (io), F6 PA6/PGMNOE/TXD1 (io), G1 PB22/PWM3/PCK2 (io), G2 PB24/TIOB0/DSR1 (io), G3 PA27/PGMD15/DRXD/PCK3 (io), G5 PA2/SCK0/SPI1_NPCS1 (io), G6 PA5/PGMRDY/RXD1 (io), G9 PB30/PCK2/PWM3/AD3 (io), H2 PA28/DTXD (io), H4 PA3/RTS0/SPI1_NPCS2 (io), H5 PA4/PGMNCMD/CTS0/SPI1_NPCS3 (io), H6 PA7/PGMNVALID/SCK1/SPI0_NPCS1 (io), H7 PA9/PGMM1/CTS1/SPI0_NPCS3 (io), H8 PA8/PGMM0/RTS1/SPI0_NPCS2 (io), H9 PB29/PCK1/PWM2/AD2 (io), J1 PA29/FIQ/SPI1_NPCS3 (io), J2 PA30/IRQ0/PCK2 (io), J3 PA0/PGMEN0/RXD0 (io), J4 PA1/PGMEN1/TXD0 (io), K6 AD7 (in), K7 AD6 (in), K8 AD5 (in), K9 AD4 (in)
part B pins: D3 NRST (io), D4 TST (in), F7 ERASE (in), F10 VDDIN (power), G10 VDDOUT (power), H10 PLLRC (in), J7 XIN/PGMCK (in), J8 XOUT (out), K3 DDP (io), K4 DDM (io), K10 ADVREF (in)
part C pins: B1 TDI (in), E5 TMS (in), F5 TCK (in), G4 TDO (out), H3 JTAGSEL (in)
part D pins: A10 VDDIO (power), D8 VDDIO (power), E6 GND (power), E7 VDDIO (power), E9 VDDIO (power), E10 GND (power), F8 VDDCORE (power), F9 GND (power), G7 VDDCORE (power), G8 GND (power), H1 VDDCORE (power), J5 VDDFLASH (power), J6 GND (power), J9 GND (power), J10 VDDPLL (power), K1 VDDCORE (power), K2 VDDCORE (power), K5 GND (power)

## AT91SAM7X256B-AU
designator U?
AT91 ARM Thumb-based 32-bit Microcontroller, 256KB Flash, 64KB SRAM, E-MAC, CAN, 100-Pin LQFP, Industrial Grade (-40°C to 85°C), Pb-Free; Published: 20-Sep-2010; DatasheetVersion: revH, Feb-2009; PackageVersion: Apr-2006; PackageReference: LQFP100; Publisher: Altium Limited; PackageDescription: 100-Pin Thin Quad Flat Pack 0.5 mm Pitch; Supplier 1: Digi-Key; Supplier Part Number 1: AT91SAM7X256B-AU-ND; Supplier 2: Farnell; Supplier Part Number 2: 1748503; Supplier 3: Mouser; Supplier Part Number 3: 556-AT91SAM7X256B-AU; Code_JEDEC: MS-026-BED; ComponentLink1Description: Manufacturer Link; ComponentLink1URL: http://www.atmel.com/products/AT91/default.asp?; ComponentLink2Description: AT91SAM7X Series Datasheet; ComponentLink2URL: http://www.atmel.com/dyn/resources/prod_documents/doc6120.pdf; ComponentLink3Description: AT91SAM7X Series Summary; ComponentLink3URL: http://www.atmel.com/dyn/resources/prod_documents/6120s.pdf; ComponentLink4Description: ARM7TDMI Reference Manual; ComponentLink4URL: http://www.atmel.com/dyn/resources/prod_documents/DDI0029G_7TDMI_R3_trm.pdf; ComponentLink5Description: Atmel.com Home; ComponentLink5URL: http://www.atmel.com
footprint LQFP100_N (Thin QFP, 100-Leads, Body 14x14mm, Pitch 0.5mm, IPC Medium Density)
footprint LQFP100_L (Thin QFP, 100-Leads, Body 14x14mm, Pitch 0.5mm, IPC High Density)
footprint LQFP100_M (Thin QFP, 100-Leads, Body 14x14mm, Pitch 0.5mm, IPC Low Density)
part A pins: 3 AD4 (in), 4 AD5 (in), 5 AD6 (in), 6 AD7 (in), 9 PB27/TIOA2/PWM0/AD0 (io), 10 PB28/TIOB2/PWM1/AD1 (io), 11 PB29/PCK1/PWM2/AD2 (io), 12 PB30/PCK2/PWM3/AD3 (io), 13 PA8/PGMM0/RTS1/SPI0_NPCS2 (io), 14 PA9/PGMM1/CTS1/SPI0_NPCS3 (io), 18 PA10/PGMM2/TWD (io), 19 PA11/PGMM3/TWCK (io), 20 PA12/PGMD0/SPI_NPCS0 (io), 21 PA13/PGMD1/SPI0_NPCS1/PCK1 (io), 22 PA14/PGMD2/SPI0_NPCS2/IRQ1 (io), 23 PA15/PGMD3/SPI0_NPCS3/TCLK2 (io), 24 PA16/PGMD4/SPI0_MISO (io), 25 PA17/PGMD5/SPI0_MOSI (io), 26 PA18/PGMD6/SPI0_SPCK (io), 27 PB9/EMDIO (io), 28 PB8/EMDC (io), 29 PB14/ERX3/SPI0_NPCS2 (io), 30 PB13/ERX2/SPI0_NPCS1 (io), 31 PB6/ERX1 (io), 34 PB5/ERX0 (io), 35 PB15/ERXDV/ECRSDV (io), 36 PB17/ERXCK/SPI0_NPCS3 (io), 38 PB7/ERXER (io), 39 PB12/ETXER/TCLK0 (io), 40 PB0/ETXCK/EREFCK/PCK0 (io), 41 PB1/ETXEN (io), 42 PB2/ETX0 (io), 43 PB3/ETX1 (io), 44 PB10/ETX2/SPI1_NPCS1 (io), 45 PB11/ETX3/SPI1_NPCS2 (io), 46 PA19/PGMD7/CANRX (io), 47 PA20/PGMD8/CANTX (io), 49 PA21/PGMD9/TF/SPI1_NPCS0 (io), 50 PA22/PGMD10/TK/SPI1_SPCK (io), 53 PB16/ECOL/SPI1_NPCS3 (io), 54 PB4/ECRS (io), 55 PA23/PGMD11/TD/SPI1_MOSI (io), 56 PA24/PGMD12/RD/SPI1_MISO (io), 59 PA25/PGMD13/RK/SPI1_NPCS1 (io), 60 PA26/PGMD14/RF/SPI1_NPCS2 (io), 63 PB18/EF100/ADTRG (io), 64 PB19/PWM0/TCLK1 (io), 65 PB20/PWM1/PCK0 (io), 66 PB21/PWM2/PCK1 (io), 67 PB22/PWM3/PCK2 (io), 69 PB23/TIOA0/DCD1 (io), 70 PB24/TIOB0/DSR1 (io), 71 PB25/TIOA1/DTR1 (io), 72 PB26/TIOB1/RI1 (io), 73 PA27/PGMD15/DRXD/PCK3 (io), 74 PA28/DTXD (io), 75 PA29/FIQ/SPI1_NPCS3 (io), 80 PA30/IRQ0/PCK2 (io), 81 PA0/PGMEN0/RXD0 (io), 82 PA1/PGMEN1/TXD0 (io), 85 PA3/RTS0/SPI1_NPCS2 (io), 86 PA2/SCK0/SPI1_NPCS1 (io), 88 PA4/PGMNCMD/CTS0/SPI1_NPCS3 (io), 89 PA5/PGMRDY/RXD1 (io), 90 PA6/PGMNOE/TXD1 (io), 91 PA7/PGMNVALID/SCK1/SPI0_NPCS1 (io)
part B pins: 1 ADVREF (in), 7 VDDOUT (power), 8 VDDIN (power), 57 NRST (io), 58 TST (in), 92 ERASE (in), 93 DDM (io), 94 DDP (io), 97 XIN/PGMCK (in), 98 XOUT (out), 99 PLLRC (in)
part C pins: 51 TDI (in), 76 TDO (out), 77 JTAGSEL (in), 78 TMS (in), 79 TCK (in)
part D pins: 2 GND (power), 15 VDDCORE (power), 16 GND (power), 17 VDDIO (power), 32 GND (power), 33 VDDIO (power), 37 VDDCORE (power), 48 VDDIO (power), 52 GND (power), 61 VDDIO (power), 62 VDDCORE (power), 68 GND (power), 83 GND (power), 84 VDDIO (power), 87 VDDCORE (power), 95 VDDFLASH (power), 96 GND (power), 100 VDDPLL (power)

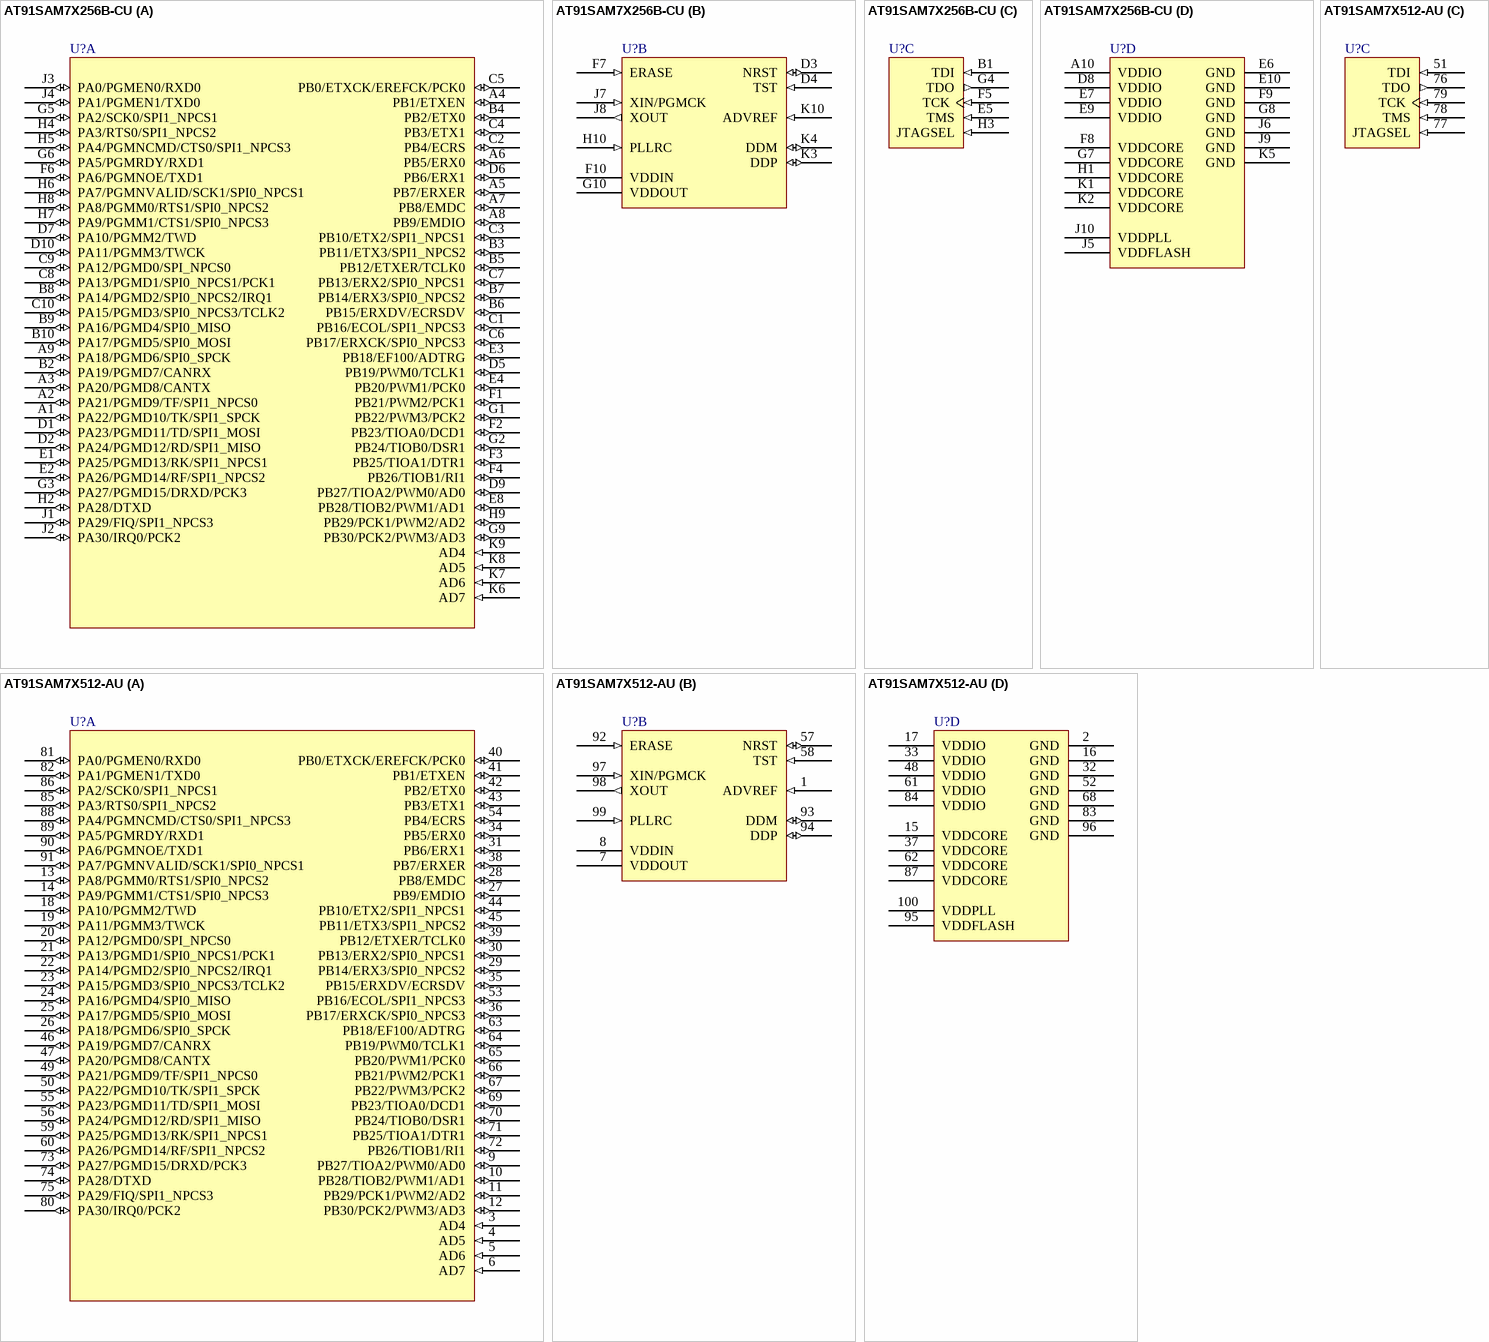
[diagram p21: symbols AT91SAM7X256B-CU to AT91SAM7X512-AU]

## AT91SAM7X256B-CU
designator U?
AT91 ARM Thumb-based 32-bit Microcontroller, 256KB Flash, 64KB SRAM, E-MAC, CAN, 100-Pin TFBGA, Industrial Grade (-40°C to 85°C), Pb-Free; Published: 20-Sep-2010; DatasheetVersion: revH, Feb-2009; PackageVersion: 2004; PackageReference: TFBGA100; Publisher: Altium Limited; PackageDescription: 100-Ball Thin Fine Ball Grid Array, 9 x 9 x1.1 mm Body, 0.80 mm Pitch; Supplier 1: Digi-Key; Supplier Part Number 1: AT91SAM7X256B-CU-ND; Supplier 2: Mouser; Supplier Part Number 2: 556-AT91SAM7X256B-CU; ComponentLink1Description: Manufacturer Link; ComponentLink1URL: http://www.atmel.com/products/AT91/default.asp?; ComponentLink2Description: AT91SAM7X Series Datasheet; ComponentLink2URL: http://www.atmel.com/dyn/resources/prod_documents/doc6120.pdf; ComponentLink3Description: AT91SAM7X Series Summary; ComponentLink3URL: http://www.atmel.com/dyn/resources/prod_documents/6120s.pdf; ComponentLink4Description: ARM7TDMI Reference Manual; ComponentLink4URL: http://www.atmel.com/dyn/resources/prod_documents/DDI0029G_7TDMI_R3_trm.pdf; ComponentLink5Description: Atmel.com Home; ComponentLink5URL: http://www.atmel.com
footprint TFBGA100 (BGA, 100-Leads, Body 9x9mm, Pitch 0.8mm)
part A pins: A1 PA22/PGMD10/TK/SPI1_SPCK (io), A2 PA21/PGMD9/TF/SPI1_NPCS0 (io), A3 PA20/PGMD8/CANTX (io), A4 PB1/ETXEN (io), A5 PB7/ERXER (io), A6 PB5/ERX0 (io), A7 PB8/EMDC (io), A8 PB9/EMDIO (io), A9 PA18/PGMD6/SPI0_SPCK (io), B2 PA19/PGMD7/CANRX (io), B3 PB11/ETX3/SPI1_NPCS2 (io), B4 PB2/ETX0 (io), B5 PB12/ETXER/TCLK0 (io), B6 PB15/ERXDV/ECRSDV (io), B7 PB14/ERX3/SPI0_NPCS2 (io), B8 PA14/PGMD2/SPI0_NPCS2/IRQ1 (io), B9 PA16/PGMD4/SPI0_MISO (io), B10 PA17/PGMD5/SPI0_MOSI (io), C1 PB16/ECOL/SPI1_NPCS3 (io), C2 PB4/ECRS (io), C3 PB10/ETX2/SPI1_NPCS1 (io), C4 PB3/ETX1 (io), C5 PB0/ETXCK/EREFCK/PCK0 (io), C6 PB17/ERXCK/SPI0_NPCS3 (io), C7 PB13/ERX2/SPI0_NPCS1 (io), C8 PA13/PGMD1/SPI0_NPCS1/PCK1 (io), C9 PA12/PGMD0/SPI_NPCS0 (io), C10 PA15/PGMD3/SPI0_NPCS3/TCLK2 (io), D1 PA23/PGMD11/TD/SPI1_MOSI (io), D2 PA24/PGMD12/RD/SPI1_MISO (io), D5 PB19/PWM0/TCLK1 (io), D6 PB6/ERX1 (io), D7 PA10/PGMM2/TWD (io), D9 PB27/TIOA2/PWM0/AD0 (io), D10 PA11/PGMM3/TWCK (io), E1 PA25/PGMD13/RK/SPI1_NPCS1 (io), E2 PA26/PGMD14/RF/SPI1_NPCS2 (io), E3 PB18/EF100/ADTRG (io), E4 PB20/PWM1/PCK0 (io), E8 PB28/TIOB2/PWM1/AD1 (io), F1 PB21/PWM2/PCK1 (io), F2 PB23/TIOA0/DCD1 (io), F3 PB25/TIOA1/DTR1 (io), F4 PB26/TIOB1/RI1 (io), F6 PA6/PGMNOE/TXD1 (io), G1 PB22/PWM3/PCK2 (io), G2 PB24/TIOB0/DSR1 (io), G3 PA27/PGMD15/DRXD/PCK3 (io), G5 PA2/SCK0/SPI1_NPCS1 (io), G6 PA5/PGMRDY/RXD1 (io), G9 PB30/PCK2/PWM3/AD3 (io), H2 PA28/DTXD (io), H4 PA3/RTS0/SPI1_NPCS2 (io), H5 PA4/PGMNCMD/CTS0/SPI1_NPCS3 (io), H6 PA7/PGMNVALID/SCK1/SPI0_NPCS1 (io), H7 PA9/PGMM1/CTS1/SPI0_NPCS3 (io), H8 PA8/PGMM0/RTS1/SPI0_NPCS2 (io), H9 PB29/PCK1/PWM2/AD2 (io), J1 PA29/FIQ/SPI1_NPCS3 (io), J2 PA30/IRQ0/PCK2 (io), J3 PA0/PGMEN0/RXD0 (io), J4 PA1/PGMEN1/TXD0 (io), K6 AD7 (in), K7 AD6 (in), K8 AD5 (in), K9 AD4 (in)
part B pins: D3 NRST (io), D4 TST (in), F7 ERASE (in), F10 VDDIN (power), G10 VDDOUT (power), H10 PLLRC (in), J7 XIN/PGMCK (in), J8 XOUT (out), K3 DDP (io), K4 DDM (io), K10 ADVREF (in)
part C pins: B1 TDI (in), E5 TMS (in), F5 TCK (in), G4 TDO (out), H3 JTAGSEL (in)
part D pins: A10 VDDIO (power), D8 VDDIO (power), E6 GND (power), E7 VDDIO (power), E9 VDDIO (power), E10 GND (power), F8 VDDCORE (power), F9 GND (power), G7 VDDCORE (power), G8 GND (power), H1 VDDCORE (power), J5 VDDFLASH (power), J6 GND (power), J9 GND (power), J10 VDDPLL (power), K1 VDDCORE (power), K2 VDDCORE (power), K5 GND (power)

## AT91SAM7X512-AU
designator U?
AT91 ARM Thumb-based 32-bit Microcontroller, 512KB Flash, 128KB SRAM, E-MAC, CAN, 100-Pin LQFP, Industrial Grade (-40°C to 85°C), Pb-Free; Published: 20-Sep-2010; DatasheetVersion: revH, Feb-2009; PackageVersion: Apr-2006; PackageReference: LQFP100; Publisher: Altium Limited; PackageDescription: 100-Pin Thin Quad Flat Pack 0.5 mm Pitch; Supplier 1: Digi-Key; Supplier Part Number 1: AT91SAM7X512-AU-ND; Supplier 2: Farnell; Supplier Part Number 2: 1288328; Supplier 3: Mouser; Supplier Part Number 3: 556-A91SAM7X512AU; Code_JEDEC: MS-026-BED; ComponentLink1Description: Manufacturer Link; ComponentLink1URL: http://www.atmel.com/products/AT91/default.asp?; ComponentLink2Description: AT91SAM7X Series Datasheet; ComponentLink2URL: http://www.atmel.com/dyn/resources/prod_documents/doc6120.pdf; ComponentLink3Description: AT91SAM7X Series Summary; ComponentLink3URL: http://www.atmel.com/dyn/resources/prod_documents/6120s.pdf; ComponentLink4Description: ARM7TDMI Reference Manual; ComponentLink4URL: http://www.atmel.com/dyn/resources/prod_documents/DDI0029G_7TDMI_R3_trm.pdf; ComponentLink5Description: Atmel.com Home; ComponentLink5URL: http://www.atmel.com
footprint LQFP100_N (Thin QFP, 100-Leads, Body 14x14mm, Pitch 0.5mm, IPC Medium Density)
footprint LQFP100_L (Thin QFP, 100-Leads, Body 14x14mm, Pitch 0.5mm, IPC High Density)
footprint LQFP100_M (Thin QFP, 100-Leads, Body 14x14mm, Pitch 0.5mm, IPC Low Density)
part A pins: 3 AD4 (in), 4 AD5 (in), 5 AD6 (in), 6 AD7 (in), 9 PB27/TIOA2/PWM0/AD0 (io), 10 PB28/TIOB2/PWM1/AD1 (io), 11 PB29/PCK1/PWM2/AD2 (io), 12 PB30/PCK2/PWM3/AD3 (io), 13 PA8/PGMM0/RTS1/SPI0_NPCS2 (io), 14 PA9/PGMM1/CTS1/SPI0_NPCS3 (io), 18 PA10/PGMM2/TWD (io), 19 PA11/PGMM3/TWCK (io), 20 PA12/PGMD0/SPI_NPCS0 (io), 21 PA13/PGMD1/SPI0_NPCS1/PCK1 (io), 22 PA14/PGMD2/SPI0_NPCS2/IRQ1 (io), 23 PA15/PGMD3/SPI0_NPCS3/TCLK2 (io), 24 PA16/PGMD4/SPI0_MISO (io), 25 PA17/PGMD5/SPI0_MOSI (io), 26 PA18/PGMD6/SPI0_SPCK (io), 27 PB9/EMDIO (io), 28 PB8/EMDC (io), 29 PB14/ERX3/SPI0_NPCS2 (io), 30 PB13/ERX2/SPI0_NPCS1 (io), 31 PB6/ERX1 (io), 34 PB5/ERX0 (io), 35 PB15/ERXDV/ECRSDV (io), 36 PB17/ERXCK/SPI0_NPCS3 (io), 38 PB7/ERXER (io), 39 PB12/ETXER/TCLK0 (io), 40 PB0/ETXCK/EREFCK/PCK0 (io), 41 PB1/ETXEN (io), 42 PB2/ETX0 (io), 43 PB3/ETX1 (io), 44 PB10/ETX2/SPI1_NPCS1 (io), 45 PB11/ETX3/SPI1_NPCS2 (io), 46 PA19/PGMD7/CANRX (io), 47 PA20/PGMD8/CANTX (io), 49 PA21/PGMD9/TF/SPI1_NPCS0 (io), 50 PA22/PGMD10/TK/SPI1_SPCK (io), 53 PB16/ECOL/SPI1_NPCS3 (io), 54 PB4/ECRS (io), 55 PA23/PGMD11/TD/SPI1_MOSI (io), 56 PA24/PGMD12/RD/SPI1_MISO (io), 59 PA25/PGMD13/RK/SPI1_NPCS1 (io), 60 PA26/PGMD14/RF/SPI1_NPCS2 (io), 63 PB18/EF100/ADTRG (io), 64 PB19/PWM0/TCLK1 (io), 65 PB20/PWM1/PCK0 (io), 66 PB21/PWM2/PCK1 (io), 67 PB22/PWM3/PCK2 (io), 69 PB23/TIOA0/DCD1 (io), 70 PB24/TIOB0/DSR1 (io), 71 PB25/TIOA1/DTR1 (io), 72 PB26/TIOB1/RI1 (io), 73 PA27/PGMD15/DRXD/PCK3 (io), 74 PA28/DTXD (io), 75 PA29/FIQ/SPI1_NPCS3 (io), 80 PA30/IRQ0/PCK2 (io), 81 PA0/PGMEN0/RXD0 (io), 82 PA1/PGMEN1/TXD0 (io), 85 PA3/RTS0/SPI1_NPCS2 (io), 86 PA2/SCK0/SPI1_NPCS1 (io), 88 PA4/PGMNCMD/CTS0/SPI1_NPCS3 (io), 89 PA5/PGMRDY/RXD1 (io), 90 PA6/PGMNOE/TXD1 (io), 91 PA7/PGMNVALID/SCK1/SPI0_NPCS1 (io)
part B pins: 1 ADVREF (in), 7 VDDOUT (power), 8 VDDIN (power), 57 NRST (io), 58 TST (in), 92 ERASE (in), 93 DDM (io), 94 DDP (io), 97 XIN/PGMCK (in), 98 XOUT (out), 99 PLLRC (in)
part C pins: 51 TDI (in), 76 TDO (out), 77 JTAGSEL (in), 78 TMS (in), 79 TCK (in)
part D pins: 2 GND (power), 15 VDDCORE (power), 16 GND (power), 17 VDDIO (power), 32 GND (power), 33 VDDIO (power), 37 VDDCORE (power), 48 VDDIO (power), 52 GND (power), 61 VDDIO (power), 62 VDDCORE (power), 68 GND (power), 83 GND (power), 84 VDDIO (power), 87 VDDCORE (power), 95 VDDFLASH (power), 96 GND (power), 100 VDDPLL (power)

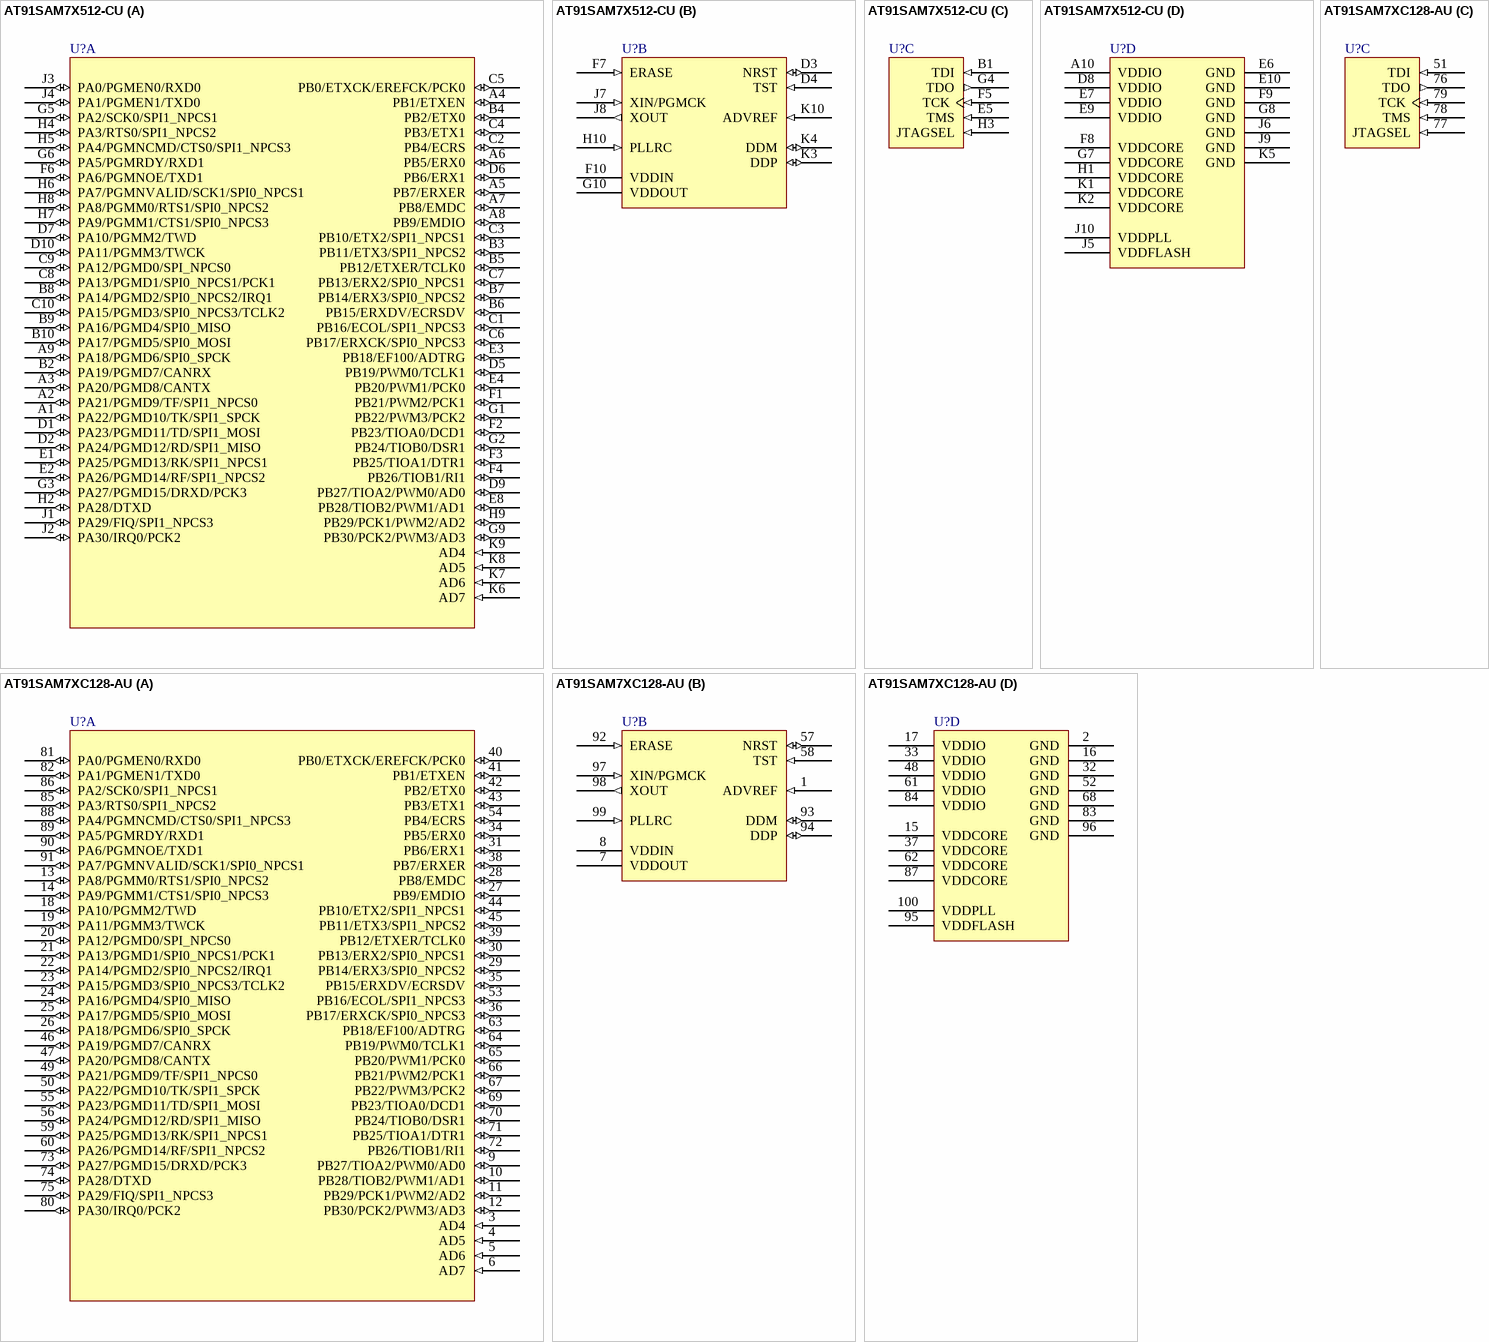
[diagram p22: symbols AT91SAM7X512-CU to AT91SAM7XC128-AU]

## AT91SAM7X512-CU
designator U?
AT91 ARM Thumb-based 32-bit Microcontroller, 512KB Flash, 128KB SRAM, E-MAC, CAN, 100-Pin TFBGA, Industrial Grade (-40°C to 85°C), Pb-Free; Published: 20-Sep-2010; DatasheetVersion: revH, Feb-2009; PackageVersion: 2004; PackageReference: TFBGA100; Publisher: Altium Limited; PackageDescription: 100-Ball Thin Fine Ball Grid Array, 9 x 9 x1.1 mm Body, 0.80 mm Pitch; Supplier 1: Digi-Key; Supplier Part Number 1: AT91SAM7X512-CU-ND; Supplier 2: Mouser; Supplier Part Number 2: 556-A91SAM7X512-CU; ComponentLink1Description: Manufacturer Link; ComponentLink1URL: http://www.atmel.com/products/AT91/default.asp?; ComponentLink2Description: AT91SAM7X Series Datasheet; ComponentLink2URL: http://www.atmel.com/dyn/resources/prod_documents/doc6120.pdf; ComponentLink3Description: AT91SAM7X Series Summary; ComponentLink3URL: http://www.atmel.com/dyn/resources/prod_documents/6120s.pdf; ComponentLink4Description: ARM7TDMI Reference Manual; ComponentLink4URL: http://www.atmel.com/dyn/resources/prod_documents/DDI0029G_7TDMI_R3_trm.pdf; ComponentLink5Description: Atmel.com Home; ComponentLink5URL: http://www.atmel.com
footprint TFBGA100 (BGA, 100-Leads, Body 9x9mm, Pitch 0.8mm)
part A pins: A1 PA22/PGMD10/TK/SPI1_SPCK (io), A2 PA21/PGMD9/TF/SPI1_NPCS0 (io), A3 PA20/PGMD8/CANTX (io), A4 PB1/ETXEN (io), A5 PB7/ERXER (io), A6 PB5/ERX0 (io), A7 PB8/EMDC (io), A8 PB9/EMDIO (io), A9 PA18/PGMD6/SPI0_SPCK (io), B2 PA19/PGMD7/CANRX (io), B3 PB11/ETX3/SPI1_NPCS2 (io), B4 PB2/ETX0 (io), B5 PB12/ETXER/TCLK0 (io), B6 PB15/ERXDV/ECRSDV (io), B7 PB14/ERX3/SPI0_NPCS2 (io), B8 PA14/PGMD2/SPI0_NPCS2/IRQ1 (io), B9 PA16/PGMD4/SPI0_MISO (io), B10 PA17/PGMD5/SPI0_MOSI (io), C1 PB16/ECOL/SPI1_NPCS3 (io), C2 PB4/ECRS (io), C3 PB10/ETX2/SPI1_NPCS1 (io), C4 PB3/ETX1 (io), C5 PB0/ETXCK/EREFCK/PCK0 (io), C6 PB17/ERXCK/SPI0_NPCS3 (io), C7 PB13/ERX2/SPI0_NPCS1 (io), C8 PA13/PGMD1/SPI0_NPCS1/PCK1 (io), C9 PA12/PGMD0/SPI_NPCS0 (io), C10 PA15/PGMD3/SPI0_NPCS3/TCLK2 (io), D1 PA23/PGMD11/TD/SPI1_MOSI (io), D2 PA24/PGMD12/RD/SPI1_MISO (io), D5 PB19/PWM0/TCLK1 (io), D6 PB6/ERX1 (io), D7 PA10/PGMM2/TWD (io), D9 PB27/TIOA2/PWM0/AD0 (io), D10 PA11/PGMM3/TWCK (io), E1 PA25/PGMD13/RK/SPI1_NPCS1 (io), E2 PA26/PGMD14/RF/SPI1_NPCS2 (io), E3 PB18/EF100/ADTRG (io), E4 PB20/PWM1/PCK0 (io), E8 PB28/TIOB2/PWM1/AD1 (io), F1 PB21/PWM2/PCK1 (io), F2 PB23/TIOA0/DCD1 (io), F3 PB25/TIOA1/DTR1 (io), F4 PB26/TIOB1/RI1 (io), F6 PA6/PGMNOE/TXD1 (io), G1 PB22/PWM3/PCK2 (io), G2 PB24/TIOB0/DSR1 (io), G3 PA27/PGMD15/DRXD/PCK3 (io), G5 PA2/SCK0/SPI1_NPCS1 (io), G6 PA5/PGMRDY/RXD1 (io), G9 PB30/PCK2/PWM3/AD3 (io), H2 PA28/DTXD (io), H4 PA3/RTS0/SPI1_NPCS2 (io), H5 PA4/PGMNCMD/CTS0/SPI1_NPCS3 (io), H6 PA7/PGMNVALID/SCK1/SPI0_NPCS1 (io), H7 PA9/PGMM1/CTS1/SPI0_NPCS3 (io), H8 PA8/PGMM0/RTS1/SPI0_NPCS2 (io), H9 PB29/PCK1/PWM2/AD2 (io), J1 PA29/FIQ/SPI1_NPCS3 (io), J2 PA30/IRQ0/PCK2 (io), J3 PA0/PGMEN0/RXD0 (io), J4 PA1/PGMEN1/TXD0 (io), K6 AD7 (in), K7 AD6 (in), K8 AD5 (in), K9 AD4 (in)
part B pins: D3 NRST (io), D4 TST (in), F7 ERASE (in), F10 VDDIN (power), G10 VDDOUT (power), H10 PLLRC (in), J7 XIN/PGMCK (in), J8 XOUT (out), K3 DDP (io), K4 DDM (io), K10 ADVREF (in)
part C pins: B1 TDI (in), E5 TMS (in), F5 TCK (in), G4 TDO (out), H3 JTAGSEL (in)
part D pins: A10 VDDIO (power), D8 VDDIO (power), E6 GND (power), E7 VDDIO (power), E9 VDDIO (power), E10 GND (power), F8 VDDCORE (power), F9 GND (power), G7 VDDCORE (power), G8 GND (power), H1 VDDCORE (power), J5 VDDFLASH (power), J6 GND (power), J9 GND (power), J10 VDDPLL (power), K1 VDDCORE (power), K2 VDDCORE (power), K5 GND (power)

## AT91SAM7XC128-AU
designator U?
AT91 ARM Thumb-based 32-bit Microcontroller, 128KB Flash, 32KB SRAM, E-MAC, CAN, 100-Pin LQFP, Industrial Grade (-40°C to 85°C), Pb-Free; Published: 16-Oct-2006; DatasheetVersion: revDS, Feb-2009; PackageVersion: Apr-2006; PackageReference: LQFP100; Publisher: Altium Limited; PackageDescription: 100-Pin Thin Quad Flat Pack 0.5 mm Pitch; Supplier 1: Digi-Key; Supplier Part Number 1: AT91SAM7XC128-AU-ND; Supplier 2: Mouser; Supplier Part Number 2: 556-A91SAM7XC128AU; Code_JEDEC: MS-026-BED; ComponentLink1Description: Manufacturer Link; ComponentLink1URL: http://www.atmel.com/products/AT91/default.asp?; ComponentLink2Description: AT91SAM7XC Series Summary; ComponentLink2URL: http://www.atmel.com/dyn/resources/prod_documents/6209s.pdf; ComponentLink3Description: ARM7TDMI Reference Manual; ComponentLink3URL: http://www.atmel.com/dyn/resources/prod_documents/DDI0029G_7TDMI_R3_trm.pdf; ComponentLink4Description: Atmel.com Home; ComponentLink4URL: http://www.atmel.com
footprint LQFP100_N (Thin QFP, 100-Leads, Body 14x14mm, Pitch 0.5mm, IPC Medium Density)
footprint LQFP100_L (Thin QFP, 100-Leads, Body 14x14mm, Pitch 0.5mm, IPC High Density)
footprint LQFP100_M (Thin QFP, 100-Leads, Body 14x14mm, Pitch 0.5mm, IPC Low Density)
part A pins: 3 AD4 (in), 4 AD5 (in), 5 AD6 (in), 6 AD7 (in), 9 PB27/TIOA2/PWM0/AD0 (io), 10 PB28/TIOB2/PWM1/AD1 (io), 11 PB29/PCK1/PWM2/AD2 (io), 12 PB30/PCK2/PWM3/AD3 (io), 13 PA8/PGMM0/RTS1/SPI0_NPCS2 (io), 14 PA9/PGMM1/CTS1/SPI0_NPCS3 (io), 18 PA10/PGMM2/TWD (io), 19 PA11/PGMM3/TWCK (io), 20 PA12/PGMD0/SPI_NPCS0 (io), 21 PA13/PGMD1/SPI0_NPCS1/PCK1 (io), 22 PA14/PGMD2/SPI0_NPCS2/IRQ1 (io), 23 PA15/PGMD3/SPI0_NPCS3/TCLK2 (io), 24 PA16/PGMD4/SPI0_MISO (io), 25 PA17/PGMD5/SPI0_MOSI (io), 26 PA18/PGMD6/SPI0_SPCK (io), 27 PB9/EMDIO (io), 28 PB8/EMDC (io), 29 PB14/ERX3/SPI0_NPCS2 (io), 30 PB13/ERX2/SPI0_NPCS1 (io), 31 PB6/ERX1 (io), 34 PB5/ERX0 (io), 35 PB15/ERXDV/ECRSDV (io), 36 PB17/ERXCK/SPI0_NPCS3 (io), 38 PB7/ERXER (io), 39 PB12/ETXER/TCLK0 (io), 40 PB0/ETXCK/EREFCK/PCK0 (io), 41 PB1/ETXEN (io), 42 PB2/ETX0 (io), 43 PB3/ETX1 (io), 44 PB10/ETX2/SPI1_NPCS1 (io), 45 PB11/ETX3/SPI1_NPCS2 (io), 46 PA19/PGMD7/CANRX (io), 47 PA20/PGMD8/CANTX (io), 49 PA21/PGMD9/TF/SPI1_NPCS0 (io), 50 PA22/PGMD10/TK/SPI1_SPCK (io), 53 PB16/ECOL/SPI1_NPCS3 (io), 54 PB4/ECRS (io), 55 PA23/PGMD11/TD/SPI1_MOSI (io), 56 PA24/PGMD12/RD/SPI1_MISO (io), 59 PA25/PGMD13/RK/SPI1_NPCS1 (io), 60 PA26/PGMD14/RF/SPI1_NPCS2 (io), 63 PB18/EF100/ADTRG (io), 64 PB19/PWM0/TCLK1 (io), 65 PB20/PWM1/PCK0 (io), 66 PB21/PWM2/PCK1 (io), 67 PB22/PWM3/PCK2 (io), 69 PB23/TIOA0/DCD1 (io), 70 PB24/TIOB0/DSR1 (io), 71 PB25/TIOA1/DTR1 (io), 72 PB26/TIOB1/RI1 (io), 73 PA27/PGMD15/DRXD/PCK3 (io), 74 PA28/DTXD (io), 75 PA29/FIQ/SPI1_NPCS3 (io), 80 PA30/IRQ0/PCK2 (io), 81 PA0/PGMEN0/RXD0 (io), 82 PA1/PGMEN1/TXD0 (io), 85 PA3/RTS0/SPI1_NPCS2 (io), 86 PA2/SCK0/SPI1_NPCS1 (io), 88 PA4/PGMNCMD/CTS0/SPI1_NPCS3 (io), 89 PA5/PGMRDY/RXD1 (io), 90 PA6/PGMNOE/TXD1 (io), 91 PA7/PGMNVALID/SCK1/SPI0_NPCS1 (io)
part B pins: 1 ADVREF (in), 7 VDDOUT (power), 8 VDDIN (power), 57 NRST (io), 58 TST (in), 92 ERASE (in), 93 DDM (io), 94 DDP (io), 97 XIN/PGMCK (in), 98 XOUT (out), 99 PLLRC (in)
part C pins: 51 TDI (in), 76 TDO (out), 77 JTAGSEL (in), 78 TMS (in), 79 TCK (in)
part D pins: 2 GND (power), 15 VDDCORE (power), 16 GND (power), 17 VDDIO (power), 32 GND (power), 33 VDDIO (power), 37 VDDCORE (power), 48 VDDIO (power), 52 GND (power), 61 VDDIO (power), 62 VDDCORE (power), 68 GND (power), 83 GND (power), 84 VDDIO (power), 87 VDDCORE (power), 95 VDDFLASH (power), 96 GND (power), 100 VDDPLL (power)

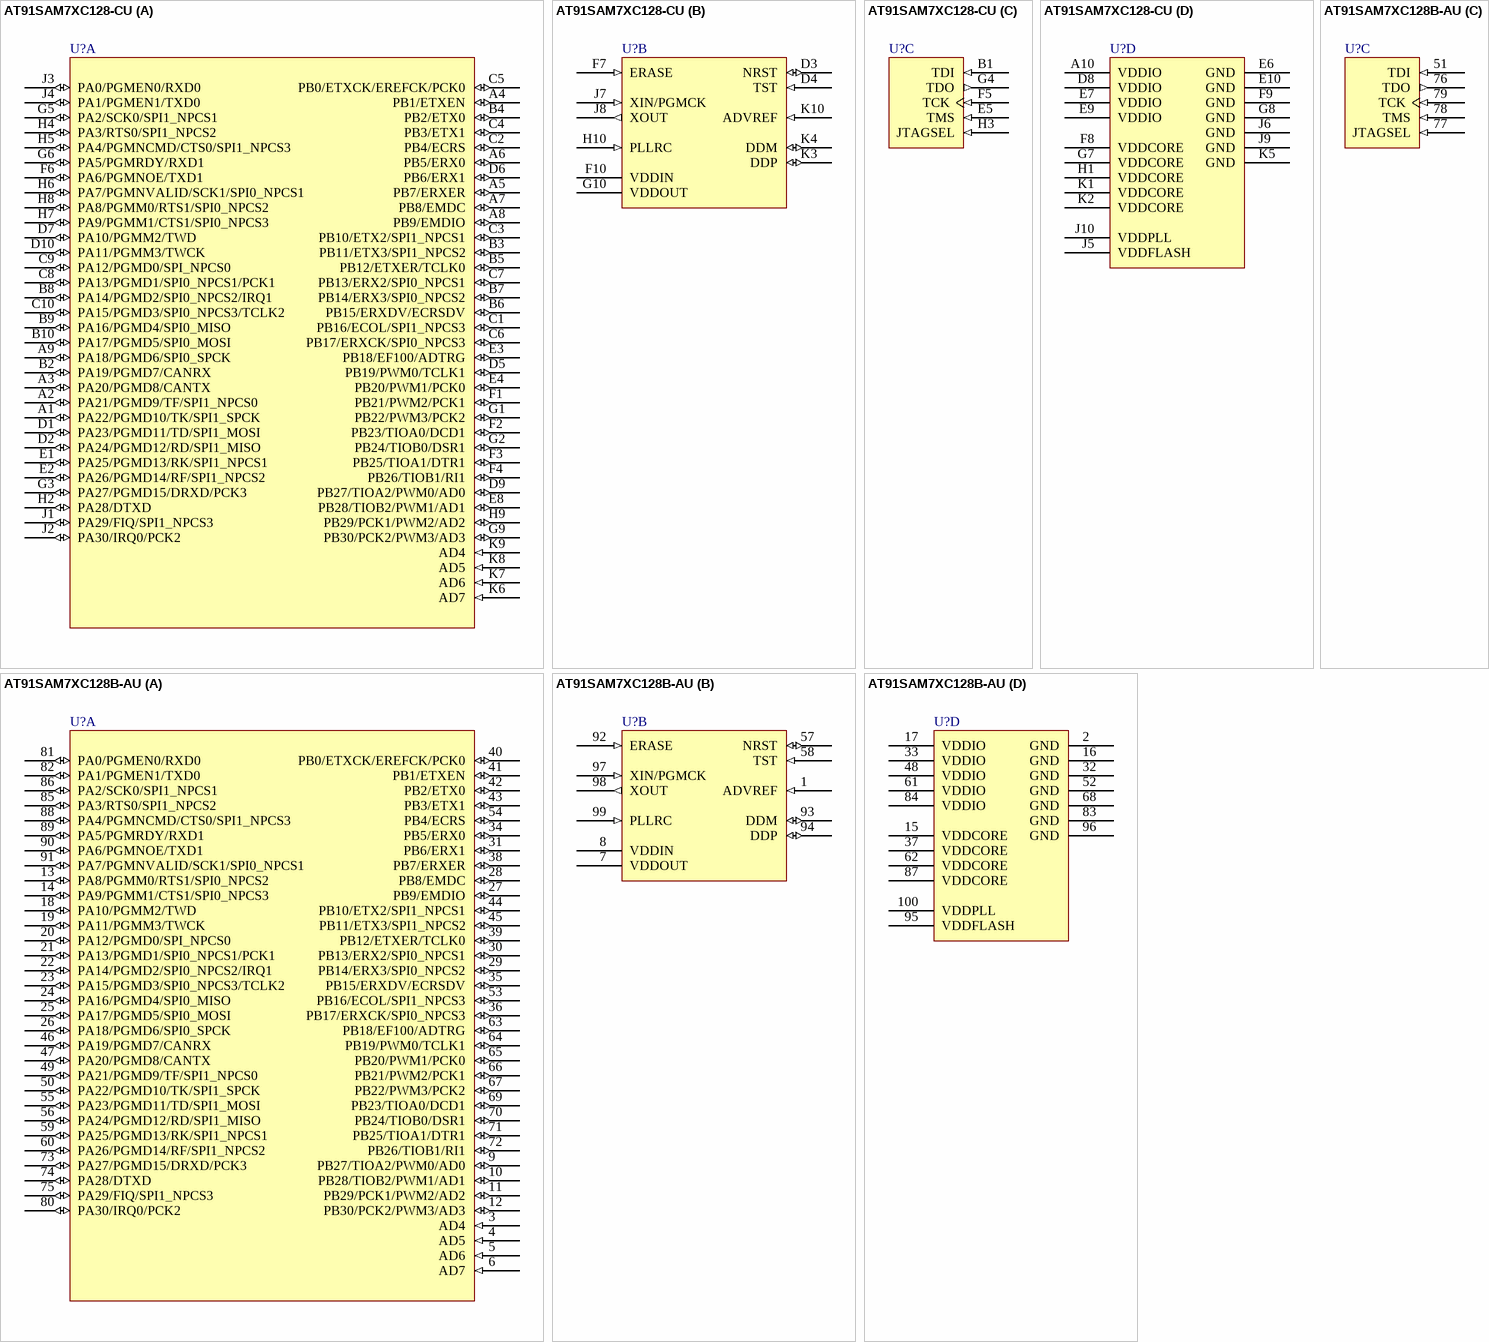
[diagram p23: symbols AT91SAM7XC128-CU to AT91SAM7XC128B-AU]